# Altium schematic symbol library Analog_ADC.SchLib: 158 symbols (part 2 of 3)
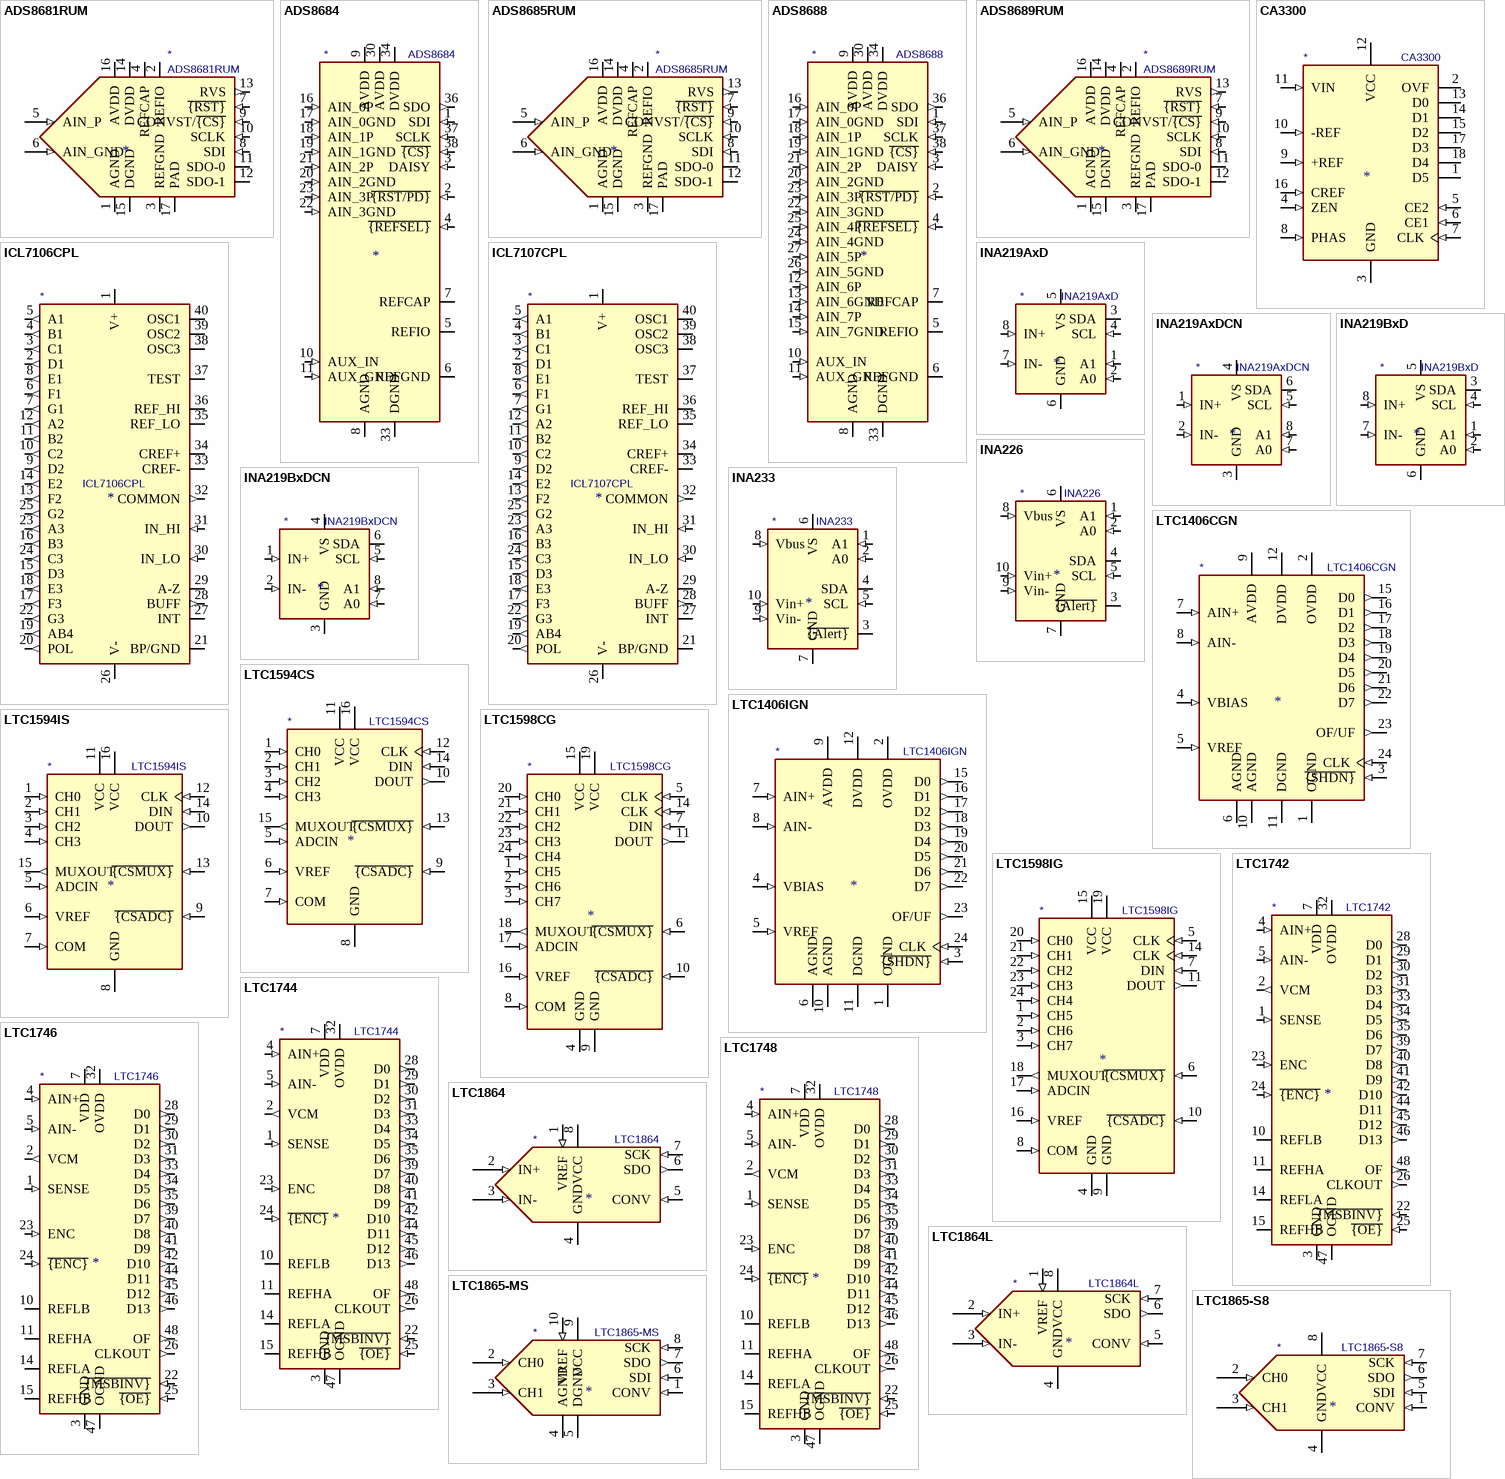
[diagram p6: symbols ADS8681RUM to LTC1865-S8]

## LTC1742
designator *  value LTC1742
ki_keywords: ADC analog digital converter pipeline; ki_description: 14-Bit, 65Msps, Low Noise, ADC, TSSOP-48; ki_fp_filters: TSSOP*6.1x12.5mm*P0.5mm*; Footprint: Package_SO:TSSOP-48_6.1x12.5mm_P0.5mm; Supplier: https://www.analog.com/media/en/technical-documentation/data-sheets/1742f.pdf
footprint TSSOP-48_6.1x12.5mm_P0.5mm
pins: 1 SENSE (in), 2 VCM (out), 3 GND (power), 4 AIN+ (in), 5 AIN- (in), 6 GND hidden, 7 VDD (power), 8 VDD hidden, 9 GND hidden, 10 REFLB, 11 REFHA, 12 GND hidden, 13 GND hidden, 14 REFLA, 15 REFHB, 16 GND hidden, 17 VDD hidden, 18 VDD hidden, 19 GND hidden, 20 VDD hidden, 21 GND hidden, 22 ~{{MSBINV}} (in), 23 ENC (in), 24 ~{{ENC}} (in), 25 ~{{OE}} (in), 26 CLKOUT (out), 27 OGND hidden, 28 D0 (out), 29 D1 (out), 30 D2 (out), 31 D3 (out), 32 OVDD (power), 33 D4 (out), 34 D5 (out), 35 D6 (out), 36 GND hidden, 37 GND hidden, 38 OGND hidden, 39 D7 (out), 40 D8 (out), 41 D9 (out), 42 D10 (out), 43 OVDD hidden, 44 D11 (out), 45 D12 (out), 46 D13 (out), 47 OGND (power), 48 OF (out)

## LTC1744
designator *  value LTC1744
ki_keywords: ADC analog digital converter pipeline; ki_description: 14-Bit, 50Msps, ADC, TSSOP-48; ki_fp_filters: TSSOP*6.1x12.5mm*P0.5mm*; Footprint: Package_SO:TSSOP-48_6.1x12.5mm_P0.5mm; Supplier: https://www.analog.com/media/en/technical-documentation/data-sheets/1744f.pdf
footprint TSSOP-48_6.1x12.5mm_P0.5mm
pins: 1 SENSE (in), 2 VCM (out), 3 GND (power), 4 AIN+ (in), 5 AIN- (in), 6 GND hidden, 7 VDD (power), 8 VDD hidden, 9 GND hidden, 10 REFLB, 11 REFHA, 12 GND hidden, 13 GND hidden, 14 REFLA, 15 REFHB, 16 GND hidden, 17 VDD hidden, 18 VDD hidden, 19 GND hidden, 20 VDD hidden, 21 GND hidden, 22 ~{{MSBINV}} (in), 23 ENC (in), 24 ~{{ENC}} (in), 25 ~{{OE}} (in), 26 CLKOUT (out), 27 OGND hidden, 28 D0 (out), 29 D1 (out), 30 D2 (out), 31 D3 (out), 32 OVDD (power), 33 D4 (out), 34 D5 (out), 35 D6 (out), 36 GND hidden, 37 GND hidden, 38 OGND hidden, 39 D7 (out), 40 D8 (out), 41 D9 (out), 42 D10 (out), 43 OVDD hidden, 44 D11 (out), 45 D12 (out), 46 D13 (out), 47 OGND (power), 48 OF (out)

## LTC1746
designator *  value LTC1746
ki_keywords: ADC analog digital converter pipeline; ki_description: Low Power, 14-Bit, 25Msps, ADC, TSSOP-48; ki_fp_filters: TSSOP*6.1x12.5mm*P0.5mm*; Footprint: Package_SO:TSSOP-48_6.1x12.5mm_P0.5mm; Supplier: https://www.analog.com/media/en/technical-documentation/data-sheets/1746f.pdf
footprint TSSOP-48_6.1x12.5mm_P0.5mm
pins: 1 SENSE (in), 2 VCM (out), 3 GND (power), 4 AIN+ (in), 5 AIN- (in), 6 GND hidden, 7 VDD (power), 8 VDD hidden, 9 GND hidden, 10 REFLB, 11 REFHA, 12 GND hidden, 13 GND hidden, 14 REFLA, 15 REFHB, 16 GND hidden, 17 VDD hidden, 18 VDD hidden, 19 GND hidden, 20 VDD hidden, 21 GND hidden, 22 ~{{MSBINV}} (in), 23 ENC (in), 24 ~{{ENC}} (in), 25 ~{{OE}} (in), 26 CLKOUT (out), 27 OGND hidden, 28 D0 (out), 29 D1 (out), 30 D2 (out), 31 D3 (out), 32 OVDD (power), 33 D4 (out), 34 D5 (out), 35 D6 (out), 36 GND hidden, 37 GND hidden, 38 OGND hidden, 39 D7 (out), 40 D8 (out), 41 D9 (out), 42 D10 (out), 43 OVDD hidden, 44 D11 (out), 45 D12 (out), 46 D13 (out), 47 OGND (power), 48 OF (out)

## LTC1748
designator *  value LTC1748
ki_keywords: ADC analog digital converter pipeline; ki_description: 14-Bit, 80Msps, Low Noise, ADC, TSSOP-48; ki_fp_filters: TSSOP*6.1x12.5mm*P0.5mm*; Footprint: Package_SO:TSSOP-48_6.1x12.5mm_P0.5mm; Supplier: https://www.analog.com/media/en/technical-documentation/data-sheets/1748fa.pdf
footprint TSSOP-48_6.1x12.5mm_P0.5mm
pins: 1 SENSE (in), 2 VCM (out), 3 GND (power), 4 AIN+ (in), 5 AIN- (in), 6 GND hidden, 7 VDD (power), 8 VDD hidden, 9 GND hidden, 10 REFLB, 11 REFHA, 12 GND hidden, 13 GND hidden, 14 REFLA, 15 REFHB, 16 GND hidden, 17 VDD hidden, 18 VDD hidden, 19 GND hidden, 20 VDD hidden, 21 GND hidden, 22 ~{{MSBINV}} (in), 23 ENC (in), 24 ~{{ENC}} (in), 25 ~{{OE}} (in), 26 CLKOUT (out), 27 OGND hidden, 28 D0 (out), 29 D1 (out), 30 D2 (out), 31 D3 (out), 32 OVDD (power), 33 D4 (out), 34 D5 (out), 35 D6 (out), 36 GND hidden, 37 GND hidden, 38 OGND hidden, 39 D7 (out), 40 D8 (out), 41 D9 (out), 42 D10 (out), 43 OVDD hidden, 44 D11 (out), 45 D12 (out), 46 D13 (out), 47 OGND (power), 48 OF (out)

## LTC1864
designator *  value LTC1864
ki_keywords: sigma-delta adc spi 1ch; ki_description: Single channel 16-bit Analog to Digital Converter, 5V supply, differential input, 150ksps, SPI interface; ki_fp_filters: MSOP*3x3mm*P0.65mm* SOIC*3.9x4.9mm*P1.27mm*; Supplier: https://www.analog.com/media/en/technical-documentation/data-sheets/18645fb.pdf
pins: 1 VREF (in), 2 IN+ (in), 3 IN- (in), 4 GND (power), 5 CONV (in), 6 SDO (out), 7 SCK (in), 8 VCC (power)

## LTC1864L
designator *  value LTC1864L
ki_keywords: sigma-delta adc spi 1ch; ki_description: Single channel 16-bit Analog to Digital Converter, 3V supply, differential input, 150ksps, SPI interface; ki_fp_filters: MSOP*3x3mm*P0.65mm* SOIC*3.9x4.9mm*P1.27mm*; Supplier: https://www.analog.com/media/en/technical-documentation/data-sheets/18645lfs.pdf
pins: 1 VREF (in), 2 IN+ (in), 3 IN- (in), 4 GND (power), 5 CONV (in), 6 SDO (out), 7 SCK (in), 8 VCC (power)

## LTC1865-MS
designator *  value LTC1865-MS
ki_keywords: sigma-delta adc 2ch; ki_description: Dual channel 16-bit Analog to Digital Converter, 5V supply, 150ksps, SPI interface; ki_fp_filters: MSOP-10*; Supplier: https://www.analog.com/media/en/technical-documentation/data-sheets/18645fb.pdf
pins: 1 CONV (in), 2 CH0 (in), 3 CH1 (in), 4 AGND (power), 5 DGND (power), 6 SDI (in), 7 SDO (out), 8 SCK (in), 9 VCC (power), 10 VREF (in)

## LTC1865-S8
designator *  value LTC1865-S8
ki_keywords: sigma-delta adc 2ch; ki_description: Dual channel 16-bit Analog to Digital Converter, 5V supply, 150ksps, SPI interface; ki_fp_filters: SOIC*3.9x4.9mm*P1.27mm*; Supplier: https://www.analog.com/media/en/technical-documentation/data-sheets/18645fb.pdf
pins: 1 CONV (in), 2 CH0 (in), 3 CH1 (in), 4 GND (power), 5 SDI (in), 6 SDO (out), 7 SCK (in), 8 VCC (power)

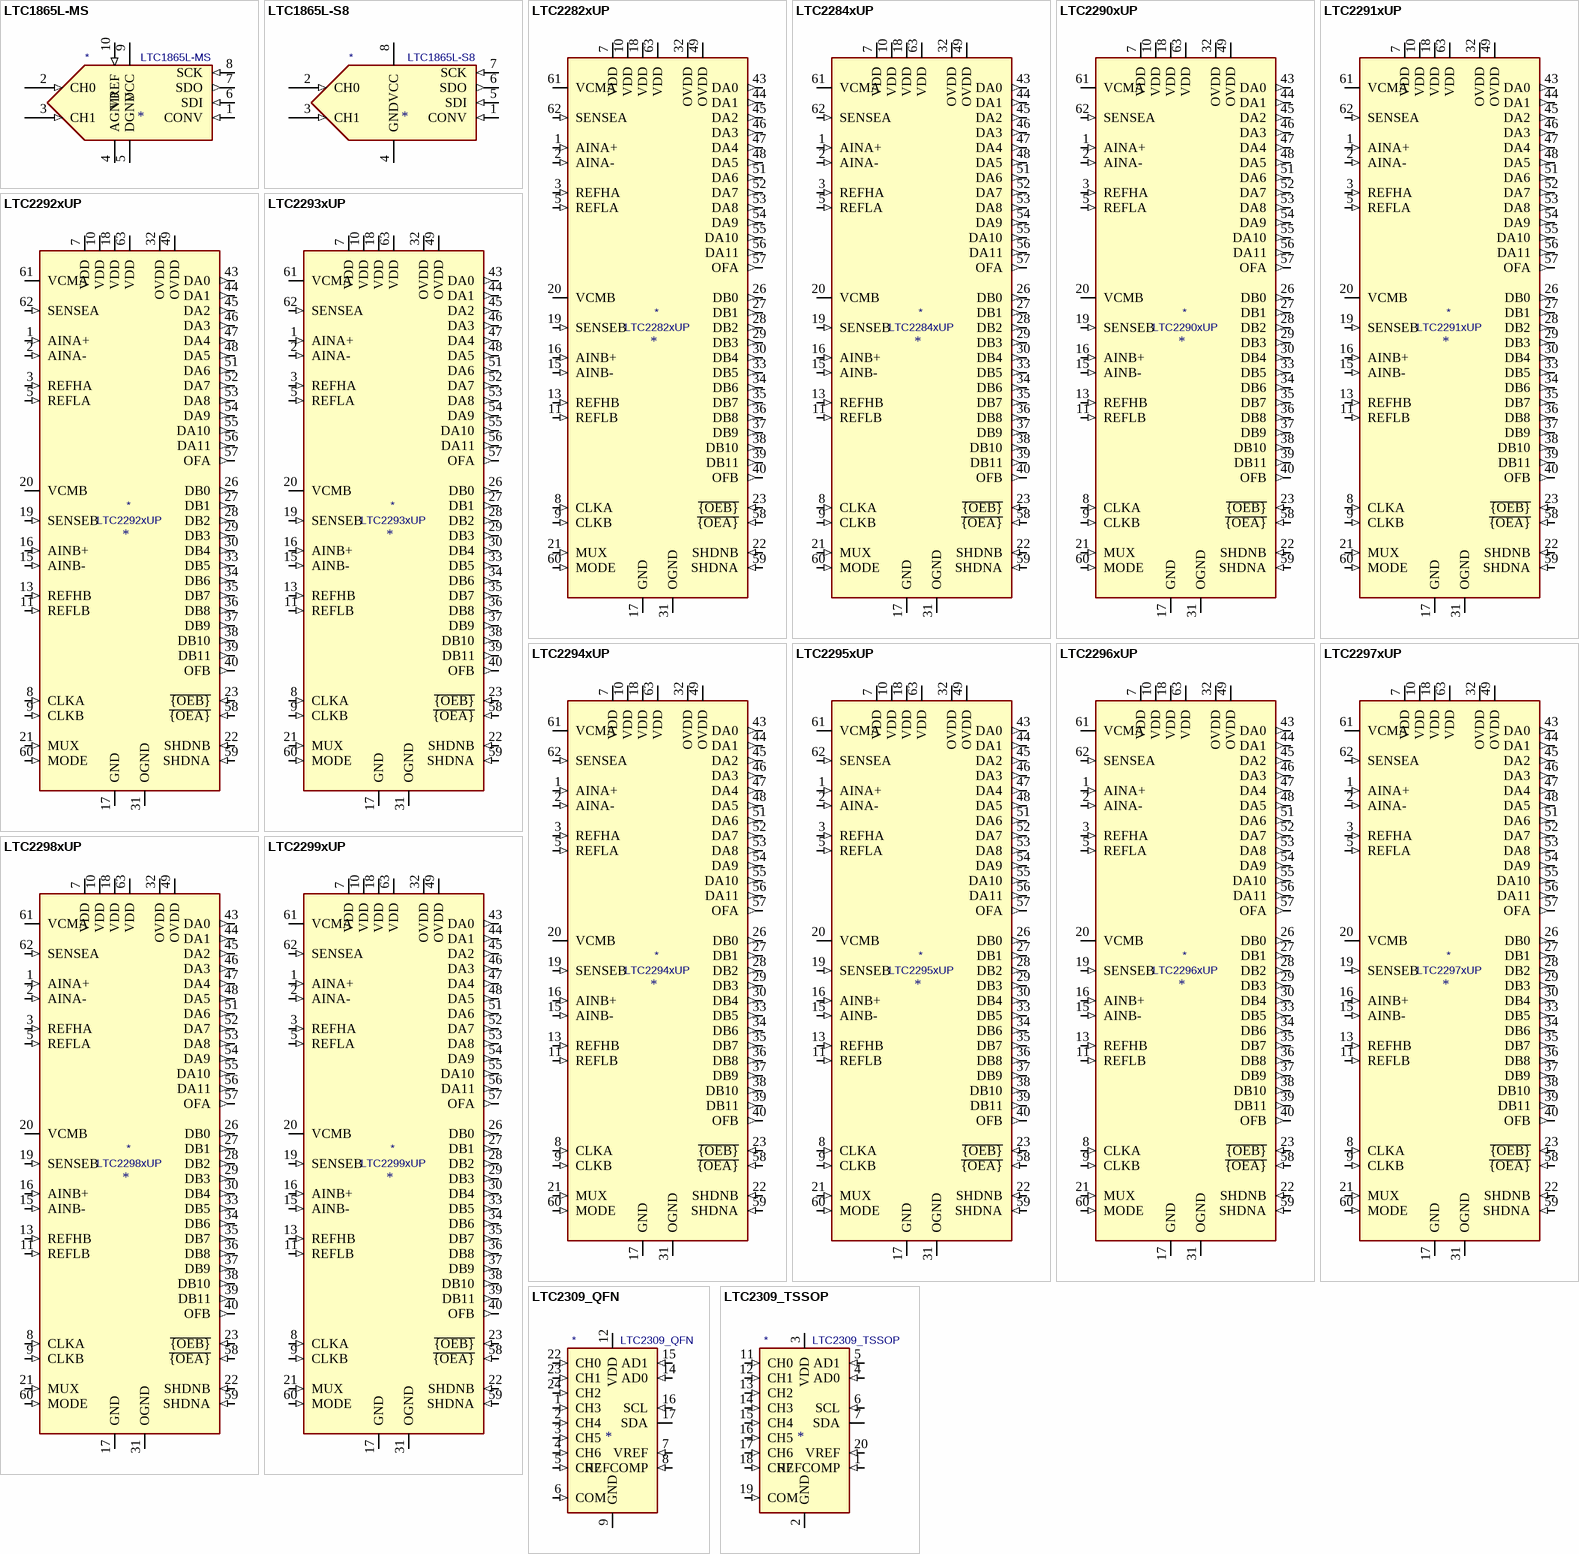
[diagram p3: symbols LTC1865L-MS to LTC2309_TSSOP]

## LTC1865L-MS
designator *  value LTC1865L-MS
ki_keywords: sigma-delta adc 2ch; ki_description: Dual channel 16-bit Analog to Digital Converter, 3V supply, 150ksps, SPI interface; ki_fp_filters: MSOP-10*; Supplier: https://www.analog.com/media/en/technical-documentation/data-sheets/18645lfs.pdf
pins: 1 CONV (in), 2 CH0 (in), 3 CH1 (in), 4 AGND (power), 5 DGND (power), 6 SDI (in), 7 SDO (out), 8 SCK (in), 9 VCC (power), 10 VREF (in)

## LTC1865L-S8
designator *  value LTC1865L-S8
ki_keywords: sigma-delta adc 2ch; ki_description: Dual channel 16-bit Analog to Digital Converter, 3V supply, 150ksps, SPI interface; ki_fp_filters: SOIC*3.9x4.9mm*P1.27mm*; Supplier: https://www.analog.com/media/en/technical-documentation/data-sheets/18645lfs.pdf
pins: 1 CONV (in), 2 CH0 (in), 3 CH1 (in), 4 GND (power), 5 SDI (in), 6 SDO (out), 7 SCK (in), 8 VCC (power)

## LTC2282xUP
designator *  value LTC2282xUP
ki_keywords: ADC; ki_description: Dual-Channel, 12-Bit Low Power ADC, 105Msps, QFN-64; ki_fp_filters: QFN*1EP*9x9mm*P0.5mm*; Footprint: Package_DFN_QFN:QFN-64-1EP_9x9mm_P0.5mm_EP7.15x7.15mm; Supplier: https://www.analog.com/media/en/technical-documentation/data-sheets/2282fb.pdf
footprint QFN-64-1EP_9x9mm_P0.5mm_EP7.15x7.15mm
pins: 1 AINA+ (in), 2 AINA- (in), 3 REFHA (in), 4 REFHA (in) hidden, 5 REFLA (in), 6 REFLA (in) hidden, 7 VDD (power), 8 CLKA (in), 9 CLKB (in), 10 VDD (power), 11 REFLB (in), 12 REFLB (in) hidden, 13 REFHB (in), 14 REFHB (in) hidden, 15 AINB- (in), 16 AINB+ (in), 17 GND (power), 18 VDD (power), 19 SENSEB (in), 20 VCMB, 21 MUX (in), 22 SHDNB (in), 23 ~{{OEB}} (in), 24 NC (in) hidden, 25 NC (in) hidden, 26 DB0 (out), 27 DB1 (out), 28 DB2 (out), 29 DB3 (out), 30 DB4 (out), 31 OGND (power), 32 OVDD (power), 33 DB5 (out), 34 DB6 (out), 35 DB7 (out), 36 DB8 (out), 37 DB9 (out), 38 DB10 (out), 39 DB11 (out), 40 OFB (out), 41 NC (in) hidden, 42 NC (in) hidden, 43 DA0 (out), 44 DA1 (out), 45 DA2 (out), 46 DA3 (out), 47 DA4 (out), 48 DA5 (out), 49 OVDD (power), 50 OGND hidden, 51 DA6 (out), 52 DA7 (out), 53 DA8 (out), 54 DA9 (out), 55 DA10 (out), 56 DA11 (out), 57 OFA (out), 58 ~{{OEA}} (in), 59 SHDNA (in), 60 MODE (in), 61 VCMA, 62 SENSEA (in), 63 VDD (power), 64 GND hidden, 65 GND hidden

## LTC2284xUP
designator *  value LTC2284xUP
ki_keywords: ADC; ki_description: Dual-Channel, 14-Bit Low Power ADC, 105Msps, QFN-64; ki_fp_filters: QFN*1EP*9x9mm*P0.5mm*; Footprint: Package_DFN_QFN:QFN-64-1EP_9x9mm_P0.5mm_EP7.15x7.15mm; Supplier: https://www.analog.com/media/en/technical-documentation/data-sheets/2284fa.pdf
footprint QFN-64-1EP_9x9mm_P0.5mm_EP7.15x7.15mm
pins: 1 AINA+ (in), 2 AINA- (in), 3 REFHA (in), 4 REFHA (in) hidden, 5 REFLA (in), 6 REFLA (in) hidden, 7 VDD (power), 8 CLKA (in), 9 CLKB (in), 10 VDD (power), 11 REFLB (in), 12 REFLB (in) hidden, 13 REFHB (in), 14 REFHB (in) hidden, 15 AINB- (in), 16 AINB+ (in), 17 GND (power), 18 VDD (power), 19 SENSEB (in), 20 VCMB, 21 MUX (in), 22 SHDNB (in), 23 ~{{OEB}} (in), 24 NC (in) hidden, 25 NC (in) hidden, 26 DB0 (out), 27 DB1 (out), 28 DB2 (out), 29 DB3 (out), 30 DB4 (out), 31 OGND (power), 32 OVDD (power), 33 DB5 (out), 34 DB6 (out), 35 DB7 (out), 36 DB8 (out), 37 DB9 (out), 38 DB10 (out), 39 DB11 (out), 40 OFB (out), 41 NC (in) hidden, 42 NC (in) hidden, 43 DA0 (out), 44 DA1 (out), 45 DA2 (out), 46 DA3 (out), 47 DA4 (out), 48 DA5 (out), 49 OVDD (power), 50 OGND hidden, 51 DA6 (out), 52 DA7 (out), 53 DA8 (out), 54 DA9 (out), 55 DA10 (out), 56 DA11 (out), 57 OFA (out), 58 ~{{OEA}} (in), 59 SHDNA (in), 60 MODE (in), 61 VCMA, 62 SENSEA (in), 63 VDD (power), 64 GND hidden, 65 GND hidden

## LTC2290xUP
designator *  value LTC2290xUP
ki_keywords: ADC; ki_description: Dual-Channel, 12-Bit Low Power ADC, 10Msps, QFN-64; ki_fp_filters: QFN*1EP*9x9mm*P0.5mm*; Footprint: Package_DFN_QFN:QFN-64-1EP_9x9mm_P0.5mm_EP7.15x7.15mm; Supplier: https://www.analog.com/media/en/technical-documentation/data-sheets/2290fa.pdf
footprint QFN-64-1EP_9x9mm_P0.5mm_EP7.15x7.15mm
pins: 1 AINA+ (in), 2 AINA- (in), 3 REFHA (in), 4 REFHA (in) hidden, 5 REFLA (in), 6 REFLA (in) hidden, 7 VDD (power), 8 CLKA (in), 9 CLKB (in), 10 VDD (power), 11 REFLB (in), 12 REFLB (in) hidden, 13 REFHB (in), 14 REFHB (in) hidden, 15 AINB- (in), 16 AINB+ (in), 17 GND (power), 18 VDD (power), 19 SENSEB (in), 20 VCMB, 21 MUX (in), 22 SHDNB (in), 23 ~{{OEB}} (in), 24 NC (in) hidden, 25 NC (in) hidden, 26 DB0 (out), 27 DB1 (out), 28 DB2 (out), 29 DB3 (out), 30 DB4 (out), 31 OGND (power), 32 OVDD (power), 33 DB5 (out), 34 DB6 (out), 35 DB7 (out), 36 DB8 (out), 37 DB9 (out), 38 DB10 (out), 39 DB11 (out), 40 OFB (out), 41 NC (in) hidden, 42 NC (in) hidden, 43 DA0 (out), 44 DA1 (out), 45 DA2 (out), 46 DA3 (out), 47 DA4 (out), 48 DA5 (out), 49 OVDD (power), 50 OGND hidden, 51 DA6 (out), 52 DA7 (out), 53 DA8 (out), 54 DA9 (out), 55 DA10 (out), 56 DA11 (out), 57 OFA (out), 58 ~{{OEA}} (in), 59 SHDNA (in), 60 MODE (in), 61 VCMA, 62 SENSEA (in), 63 VDD (power), 64 GND hidden, 65 GND hidden

## LTC2291xUP
designator *  value LTC2291xUP
ki_keywords: ADC; ki_description: Dual-Channel, 12-Bit Low Power ADC, 25Msps, QFN-64; ki_fp_filters: QFN*1EP*9x9mm*P0.5mm*; Footprint: Package_DFN_QFN:QFN-64-1EP_9x9mm_P0.5mm_EP7.15x7.15mm; Supplier: https://www.analog.com/media/en/technical-documentation/data-sheets/229321fa.pdf
footprint QFN-64-1EP_9x9mm_P0.5mm_EP7.15x7.15mm
pins: 1 AINA+ (in), 2 AINA- (in), 3 REFHA (in), 4 REFHA (in) hidden, 5 REFLA (in), 6 REFLA (in) hidden, 7 VDD (power), 8 CLKA (in), 9 CLKB (in), 10 VDD (power), 11 REFLB (in), 12 REFLB (in) hidden, 13 REFHB (in), 14 REFHB (in) hidden, 15 AINB- (in), 16 AINB+ (in), 17 GND (power), 18 VDD (power), 19 SENSEB (in), 20 VCMB, 21 MUX (in), 22 SHDNB (in), 23 ~{{OEB}} (in), 24 NC (in) hidden, 25 NC (in) hidden, 26 DB0 (out), 27 DB1 (out), 28 DB2 (out), 29 DB3 (out), 30 DB4 (out), 31 OGND (power), 32 OVDD (power), 33 DB5 (out), 34 DB6 (out), 35 DB7 (out), 36 DB8 (out), 37 DB9 (out), 38 DB10 (out), 39 DB11 (out), 40 OFB (out), 41 NC (in) hidden, 42 NC (in) hidden, 43 DA0 (out), 44 DA1 (out), 45 DA2 (out), 46 DA3 (out), 47 DA4 (out), 48 DA5 (out), 49 OVDD (power), 50 OGND hidden, 51 DA6 (out), 52 DA7 (out), 53 DA8 (out), 54 DA9 (out), 55 DA10 (out), 56 DA11 (out), 57 OFA (out), 58 ~{{OEA}} (in), 59 SHDNA (in), 60 MODE (in), 61 VCMA, 62 SENSEA (in), 63 VDD (power), 64 GND hidden, 65 GND hidden

## LTC2292xUP
designator *  value LTC2292xUP
ki_keywords: ADC; ki_description: Dual-Channel, 12-Bit Low Power ADC, 40Msps, QFN-64; ki_fp_filters: QFN*1EP*9x9mm*P0.5mm*; Footprint: Package_DFN_QFN:QFN-64-1EP_9x9mm_P0.5mm_EP7.15x7.15mm; Supplier: https://www.analog.com/media/en/technical-documentation/data-sheets/229321fa.pdf
footprint QFN-64-1EP_9x9mm_P0.5mm_EP7.15x7.15mm
pins: 1 AINA+ (in), 2 AINA- (in), 3 REFHA (in), 4 REFHA (in) hidden, 5 REFLA (in), 6 REFLA (in) hidden, 7 VDD (power), 8 CLKA (in), 9 CLKB (in), 10 VDD (power), 11 REFLB (in), 12 REFLB (in) hidden, 13 REFHB (in), 14 REFHB (in) hidden, 15 AINB- (in), 16 AINB+ (in), 17 GND (power), 18 VDD (power), 19 SENSEB (in), 20 VCMB, 21 MUX (in), 22 SHDNB (in), 23 ~{{OEB}} (in), 24 NC (in) hidden, 25 NC (in) hidden, 26 DB0 (out), 27 DB1 (out), 28 DB2 (out), 29 DB3 (out), 30 DB4 (out), 31 OGND (power), 32 OVDD (power), 33 DB5 (out), 34 DB6 (out), 35 DB7 (out), 36 DB8 (out), 37 DB9 (out), 38 DB10 (out), 39 DB11 (out), 40 OFB (out), 41 NC (in) hidden, 42 NC (in) hidden, 43 DA0 (out), 44 DA1 (out), 45 DA2 (out), 46 DA3 (out), 47 DA4 (out), 48 DA5 (out), 49 OVDD (power), 50 OGND hidden, 51 DA6 (out), 52 DA7 (out), 53 DA8 (out), 54 DA9 (out), 55 DA10 (out), 56 DA11 (out), 57 OFA (out), 58 ~{{OEA}} (in), 59 SHDNA (in), 60 MODE (in), 61 VCMA, 62 SENSEA (in), 63 VDD (power), 64 GND hidden, 65 GND hidden

## LTC2293xUP
designator *  value LTC2293xUP
ki_keywords: ADC; ki_description: Dual-Channel, 12-Bit Low Power ADC, 65Msps, QFN-64; ki_fp_filters: QFN*1EP*9x9mm*P0.5mm*; Footprint: Package_DFN_QFN:QFN-64-1EP_9x9mm_P0.5mm_EP7.15x7.15mm; Supplier: https://www.analog.com/media/en/technical-documentation/data-sheets/229321fa.pdf
footprint QFN-64-1EP_9x9mm_P0.5mm_EP7.15x7.15mm
pins: 1 AINA+ (in), 2 AINA- (in), 3 REFHA (in), 4 REFHA (in) hidden, 5 REFLA (in), 6 REFLA (in) hidden, 7 VDD (power), 8 CLKA (in), 9 CLKB (in), 10 VDD (power), 11 REFLB (in), 12 REFLB (in) hidden, 13 REFHB (in), 14 REFHB (in) hidden, 15 AINB- (in), 16 AINB+ (in), 17 GND (power), 18 VDD (power), 19 SENSEB (in), 20 VCMB, 21 MUX (in), 22 SHDNB (in), 23 ~{{OEB}} (in), 24 NC (in) hidden, 25 NC (in) hidden, 26 DB0 (out), 27 DB1 (out), 28 DB2 (out), 29 DB3 (out), 30 DB4 (out), 31 OGND (power), 32 OVDD (power), 33 DB5 (out), 34 DB6 (out), 35 DB7 (out), 36 DB8 (out), 37 DB9 (out), 38 DB10 (out), 39 DB11 (out), 40 OFB (out), 41 NC (in) hidden, 42 NC (in) hidden, 43 DA0 (out), 44 DA1 (out), 45 DA2 (out), 46 DA3 (out), 47 DA4 (out), 48 DA5 (out), 49 OVDD (power), 50 OGND hidden, 51 DA6 (out), 52 DA7 (out), 53 DA8 (out), 54 DA9 (out), 55 DA10 (out), 56 DA11 (out), 57 OFA (out), 58 ~{{OEA}} (in), 59 SHDNA (in), 60 MODE (in), 61 VCMA, 62 SENSEA (in), 63 VDD (power), 64 GND hidden, 65 GND hidden

## LTC2294xUP
designator *  value LTC2294xUP
ki_keywords: ADC; ki_description: Dual-Channel, 12-Bit Low Power ADC, 80Msps, QFN-64; ki_fp_filters: QFN*1EP*9x9mm*P0.5mm*; Footprint: Package_DFN_QFN:QFN-64-1EP_9x9mm_P0.5mm_EP7.15x7.15mm; Supplier: https://www.analog.com/media/en/technical-documentation/data-sheets/2294fa.pdf
footprint QFN-64-1EP_9x9mm_P0.5mm_EP7.15x7.15mm
pins: 1 AINA+ (in), 2 AINA- (in), 3 REFHA (in), 4 REFHA (in) hidden, 5 REFLA (in), 6 REFLA (in) hidden, 7 VDD (power), 8 CLKA (in), 9 CLKB (in), 10 VDD (power), 11 REFLB (in), 12 REFLB (in) hidden, 13 REFHB (in), 14 REFHB (in) hidden, 15 AINB- (in), 16 AINB+ (in), 17 GND (power), 18 VDD (power), 19 SENSEB (in), 20 VCMB, 21 MUX (in), 22 SHDNB (in), 23 ~{{OEB}} (in), 24 NC (in) hidden, 25 NC (in) hidden, 26 DB0 (out), 27 DB1 (out), 28 DB2 (out), 29 DB3 (out), 30 DB4 (out), 31 OGND (power), 32 OVDD (power), 33 DB5 (out), 34 DB6 (out), 35 DB7 (out), 36 DB8 (out), 37 DB9 (out), 38 DB10 (out), 39 DB11 (out), 40 OFB (out), 41 NC (in) hidden, 42 NC (in) hidden, 43 DA0 (out), 44 DA1 (out), 45 DA2 (out), 46 DA3 (out), 47 DA4 (out), 48 DA5 (out), 49 OVDD (power), 50 OGND hidden, 51 DA6 (out), 52 DA7 (out), 53 DA8 (out), 54 DA9 (out), 55 DA10 (out), 56 DA11 (out), 57 OFA (out), 58 ~{{OEA}} (in), 59 SHDNA (in), 60 MODE (in), 61 VCMA, 62 SENSEA (in), 63 VDD (power), 64 GND hidden, 65 GND hidden

## LTC2295xUP
designator *  value LTC2295xUP
ki_keywords: ADC; ki_description: Dual-Channel, 14-Bit Low Power ADC, 10Msps, QFN-64; ki_fp_filters: QFN*1EP*9x9mm*P0.5mm*; Footprint: Package_DFN_QFN:QFN-64-1EP_9x9mm_P0.5mm_EP7.15x7.15mm; Supplier: https://www.analog.com/media/en/technical-documentation/data-sheets/2295fa.pdf
footprint QFN-64-1EP_9x9mm_P0.5mm_EP7.15x7.15mm
pins: 1 AINA+ (in), 2 AINA- (in), 3 REFHA (in), 4 REFHA (in) hidden, 5 REFLA (in), 6 REFLA (in) hidden, 7 VDD (power), 8 CLKA (in), 9 CLKB (in), 10 VDD (power), 11 REFLB (in), 12 REFLB (in) hidden, 13 REFHB (in), 14 REFHB (in) hidden, 15 AINB- (in), 16 AINB+ (in), 17 GND (power), 18 VDD (power), 19 SENSEB (in), 20 VCMB, 21 MUX (in), 22 SHDNB (in), 23 ~{{OEB}} (in), 24 NC (in) hidden, 25 NC (in) hidden, 26 DB0 (out), 27 DB1 (out), 28 DB2 (out), 29 DB3 (out), 30 DB4 (out), 31 OGND (power), 32 OVDD (power), 33 DB5 (out), 34 DB6 (out), 35 DB7 (out), 36 DB8 (out), 37 DB9 (out), 38 DB10 (out), 39 DB11 (out), 40 OFB (out), 41 NC (in) hidden, 42 NC (in) hidden, 43 DA0 (out), 44 DA1 (out), 45 DA2 (out), 46 DA3 (out), 47 DA4 (out), 48 DA5 (out), 49 OVDD (power), 50 OGND hidden, 51 DA6 (out), 52 DA7 (out), 53 DA8 (out), 54 DA9 (out), 55 DA10 (out), 56 DA11 (out), 57 OFA (out), 58 ~{{OEA}} (in), 59 SHDNA (in), 60 MODE (in), 61 VCMA, 62 SENSEA (in), 63 VDD (power), 64 GND hidden, 65 GND hidden

## LTC2296xUP
designator *  value LTC2296xUP
ki_keywords: ADC; ki_description: Dual-Channel, 14-Bit Low Power ADC, 25Msps, QFN-64; ki_fp_filters: QFN*1EP*9x9mm*P0.5mm*; Footprint: Package_DFN_QFN:QFN-64-1EP_9x9mm_P0.5mm_EP7.15x7.15mm; Supplier: https://www.analog.com/media/en/technical-documentation/data-sheets/229876fa.pdf
footprint QFN-64-1EP_9x9mm_P0.5mm_EP7.15x7.15mm
pins: 1 AINA+ (in), 2 AINA- (in), 3 REFHA (in), 4 REFHA (in) hidden, 5 REFLA (in), 6 REFLA (in) hidden, 7 VDD (power), 8 CLKA (in), 9 CLKB (in), 10 VDD (power), 11 REFLB (in), 12 REFLB (in) hidden, 13 REFHB (in), 14 REFHB (in) hidden, 15 AINB- (in), 16 AINB+ (in), 17 GND (power), 18 VDD (power), 19 SENSEB (in), 20 VCMB, 21 MUX (in), 22 SHDNB (in), 23 ~{{OEB}} (in), 24 NC (in) hidden, 25 NC (in) hidden, 26 DB0 (out), 27 DB1 (out), 28 DB2 (out), 29 DB3 (out), 30 DB4 (out), 31 OGND (power), 32 OVDD (power), 33 DB5 (out), 34 DB6 (out), 35 DB7 (out), 36 DB8 (out), 37 DB9 (out), 38 DB10 (out), 39 DB11 (out), 40 OFB (out), 41 NC (in) hidden, 42 NC (in) hidden, 43 DA0 (out), 44 DA1 (out), 45 DA2 (out), 46 DA3 (out), 47 DA4 (out), 48 DA5 (out), 49 OVDD (power), 50 OGND hidden, 51 DA6 (out), 52 DA7 (out), 53 DA8 (out), 54 DA9 (out), 55 DA10 (out), 56 DA11 (out), 57 OFA (out), 58 ~{{OEA}} (in), 59 SHDNA (in), 60 MODE (in), 61 VCMA, 62 SENSEA (in), 63 VDD (power), 64 GND hidden, 65 GND hidden

## LTC2297xUP
designator *  value LTC2297xUP
ki_keywords: ADC; ki_description: Dual-Channel, 14-Bit Low Power ADC, 40Msps, QFN-64; ki_fp_filters: QFN*1EP*9x9mm*P0.5mm*; Footprint: Package_DFN_QFN:QFN-64-1EP_9x9mm_P0.5mm_EP7.15x7.15mm; Supplier: https://www.analog.com/media/en/technical-documentation/data-sheets/229876fa.pdf
footprint QFN-64-1EP_9x9mm_P0.5mm_EP7.15x7.15mm
pins: 1 AINA+ (in), 2 AINA- (in), 3 REFHA (in), 4 REFHA (in) hidden, 5 REFLA (in), 6 REFLA (in) hidden, 7 VDD (power), 8 CLKA (in), 9 CLKB (in), 10 VDD (power), 11 REFLB (in), 12 REFLB (in) hidden, 13 REFHB (in), 14 REFHB (in) hidden, 15 AINB- (in), 16 AINB+ (in), 17 GND (power), 18 VDD (power), 19 SENSEB (in), 20 VCMB, 21 MUX (in), 22 SHDNB (in), 23 ~{{OEB}} (in), 24 NC (in) hidden, 25 NC (in) hidden, 26 DB0 (out), 27 DB1 (out), 28 DB2 (out), 29 DB3 (out), 30 DB4 (out), 31 OGND (power), 32 OVDD (power), 33 DB5 (out), 34 DB6 (out), 35 DB7 (out), 36 DB8 (out), 37 DB9 (out), 38 DB10 (out), 39 DB11 (out), 40 OFB (out), 41 NC (in) hidden, 42 NC (in) hidden, 43 DA0 (out), 44 DA1 (out), 45 DA2 (out), 46 DA3 (out), 47 DA4 (out), 48 DA5 (out), 49 OVDD (power), 50 OGND hidden, 51 DA6 (out), 52 DA7 (out), 53 DA8 (out), 54 DA9 (out), 55 DA10 (out), 56 DA11 (out), 57 OFA (out), 58 ~{{OEA}} (in), 59 SHDNA (in), 60 MODE (in), 61 VCMA, 62 SENSEA (in), 63 VDD (power), 64 GND hidden, 65 GND hidden

## LTC2298xUP
designator *  value LTC2298xUP
ki_keywords: ADC; ki_description: Dual-Channel, 14-Bit Low Power ADC, 65Msps, QFN-64; ki_fp_filters: QFN*1EP*9x9mm*P0.5mm*; Footprint: Package_DFN_QFN:QFN-64-1EP_9x9mm_P0.5mm_EP7.15x7.15mm; Supplier: https://www.analog.com/media/en/technical-documentation/data-sheets/229876fa.pdf
footprint QFN-64-1EP_9x9mm_P0.5mm_EP7.15x7.15mm
pins: 1 AINA+ (in), 2 AINA- (in), 3 REFHA (in), 4 REFHA (in) hidden, 5 REFLA (in), 6 REFLA (in) hidden, 7 VDD (power), 8 CLKA (in), 9 CLKB (in), 10 VDD (power), 11 REFLB (in), 12 REFLB (in) hidden, 13 REFHB (in), 14 REFHB (in) hidden, 15 AINB- (in), 16 AINB+ (in), 17 GND (power), 18 VDD (power), 19 SENSEB (in), 20 VCMB, 21 MUX (in), 22 SHDNB (in), 23 ~{{OEB}} (in), 24 NC (in) hidden, 25 NC (in) hidden, 26 DB0 (out), 27 DB1 (out), 28 DB2 (out), 29 DB3 (out), 30 DB4 (out), 31 OGND (power), 32 OVDD (power), 33 DB5 (out), 34 DB6 (out), 35 DB7 (out), 36 DB8 (out), 37 DB9 (out), 38 DB10 (out), 39 DB11 (out), 40 OFB (out), 41 NC (in) hidden, 42 NC (in) hidden, 43 DA0 (out), 44 DA1 (out), 45 DA2 (out), 46 DA3 (out), 47 DA4 (out), 48 DA5 (out), 49 OVDD (power), 50 OGND hidden, 51 DA6 (out), 52 DA7 (out), 53 DA8 (out), 54 DA9 (out), 55 DA10 (out), 56 DA11 (out), 57 OFA (out), 58 ~{{OEA}} (in), 59 SHDNA (in), 60 MODE (in), 61 VCMA, 62 SENSEA (in), 63 VDD (power), 64 GND hidden, 65 GND hidden

## LTC2299xUP
designator *  value LTC2299xUP
ki_keywords: ADC; ki_description: Dual-Channel, 14-Bit Low Power ADC, 80Msps, QFN-64; ki_fp_filters: QFN*1EP*9x9mm*P0.5mm*; Footprint: Package_DFN_QFN:QFN-64-1EP_9x9mm_P0.5mm_EP7.15x7.15mm; Supplier: https://www.analog.com/media/en/technical-documentation/data-sheets/2299fa.pdf
footprint QFN-64-1EP_9x9mm_P0.5mm_EP7.15x7.15mm
pins: 1 AINA+ (in), 2 AINA- (in), 3 REFHA (in), 4 REFHA (in) hidden, 5 REFLA (in), 6 REFLA (in) hidden, 7 VDD (power), 8 CLKA (in), 9 CLKB (in), 10 VDD (power), 11 REFLB (in), 12 REFLB (in) hidden, 13 REFHB (in), 14 REFHB (in) hidden, 15 AINB- (in), 16 AINB+ (in), 17 GND (power), 18 VDD (power), 19 SENSEB (in), 20 VCMB, 21 MUX (in), 22 SHDNB (in), 23 ~{{OEB}} (in), 24 NC (in) hidden, 25 NC (in) hidden, 26 DB0 (out), 27 DB1 (out), 28 DB2 (out), 29 DB3 (out), 30 DB4 (out), 31 OGND (power), 32 OVDD (power), 33 DB5 (out), 34 DB6 (out), 35 DB7 (out), 36 DB8 (out), 37 DB9 (out), 38 DB10 (out), 39 DB11 (out), 40 OFB (out), 41 NC (in) hidden, 42 NC (in) hidden, 43 DA0 (out), 44 DA1 (out), 45 DA2 (out), 46 DA3 (out), 47 DA4 (out), 48 DA5 (out), 49 OVDD (power), 50 OGND hidden, 51 DA6 (out), 52 DA7 (out), 53 DA8 (out), 54 DA9 (out), 55 DA10 (out), 56 DA11 (out), 57 OFA (out), 58 ~{{OEA}} (in), 59 SHDNA (in), 60 MODE (in), 61 VCMA, 62 SENSEA (in), 63 VDD (power), 64 GND hidden, 65 GND hidden

## LTC2309_QFN
designator *  value LTC2309_QFN
ki_keywords: LT ADC 12bit I2C SAR QFN; ki_description: 8 Channels, 12-Bit SAR ADC, I2C interface, QFN-24 package; ki_fp_filters: QFN*1EP*4x4mm*0.5mm*; Footprint: Package_DFN_QFN:QFN-24-1EP_4x4mm_P0.5mm_EP2.6x2.6mm; Supplier: https://www.analog.com/media/en/technical-documentation/data-sheets/2309fd.pdf
footprint QFN-24-1EP_4x4mm_P0.5mm_EP2.6x2.6mm
pins: 1 CH3 (in), 2 CH4 (in), 3 CH5 (in), 4 CH6 (in), 5 CH7 (in), 6 COM (in), 7 VREF (in), 8 REFCOMP (in), 9 GND (power), 10 GND hidden, 11 GND hidden, 12 VDD (power), 13 VDD hidden, 14 AD0 (in), 15 AD1 (in), 16 SCL (in), 17 SDA (io), 18 GND hidden, 19 GND hidden, 20 GND hidden, 21 VDD hidden, 22 CH0 (in), 23 CH1 (in), 24 CH2 (in), 25 GND hidden

## LTC2309_TSSOP
designator *  value LTC2309_TSSOP
ki_keywords: LT ADC 12bit I2C SAR TSSOP; ki_description: 8 Channels, 12-Bit SAR ADC, I2C interface, TSSOP-20 package; ki_fp_filters: TSSOP*4.4x6.5mm*P0.65mm*; Footprint: Package_SO:TSSOP-20_4.4x6.5mm_P0.65mm; Supplier: https://www.analog.com/media/en/technical-documentation/data-sheets/2309fd.pdf
footprint TSSOP-20_4.4x6.5mm_P0.65mm
pins: 1 REFCOMP (in), 2 GND (power), 3 VDD (power), 4 AD0 (in), 5 AD1 (in), 6 SCL (in), 7 SDA (io), 8 GND hidden, 9 GND hidden, 10 VDD hidden, 11 CH0 (in), 12 CH1 (in), 13 CH2 (in), 14 CH3 (in), 15 CH4 (in), 16 CH5 (in), 17 CH6 (in), 18 CH7 (in), 19 COM (in), 20 VREF (in)

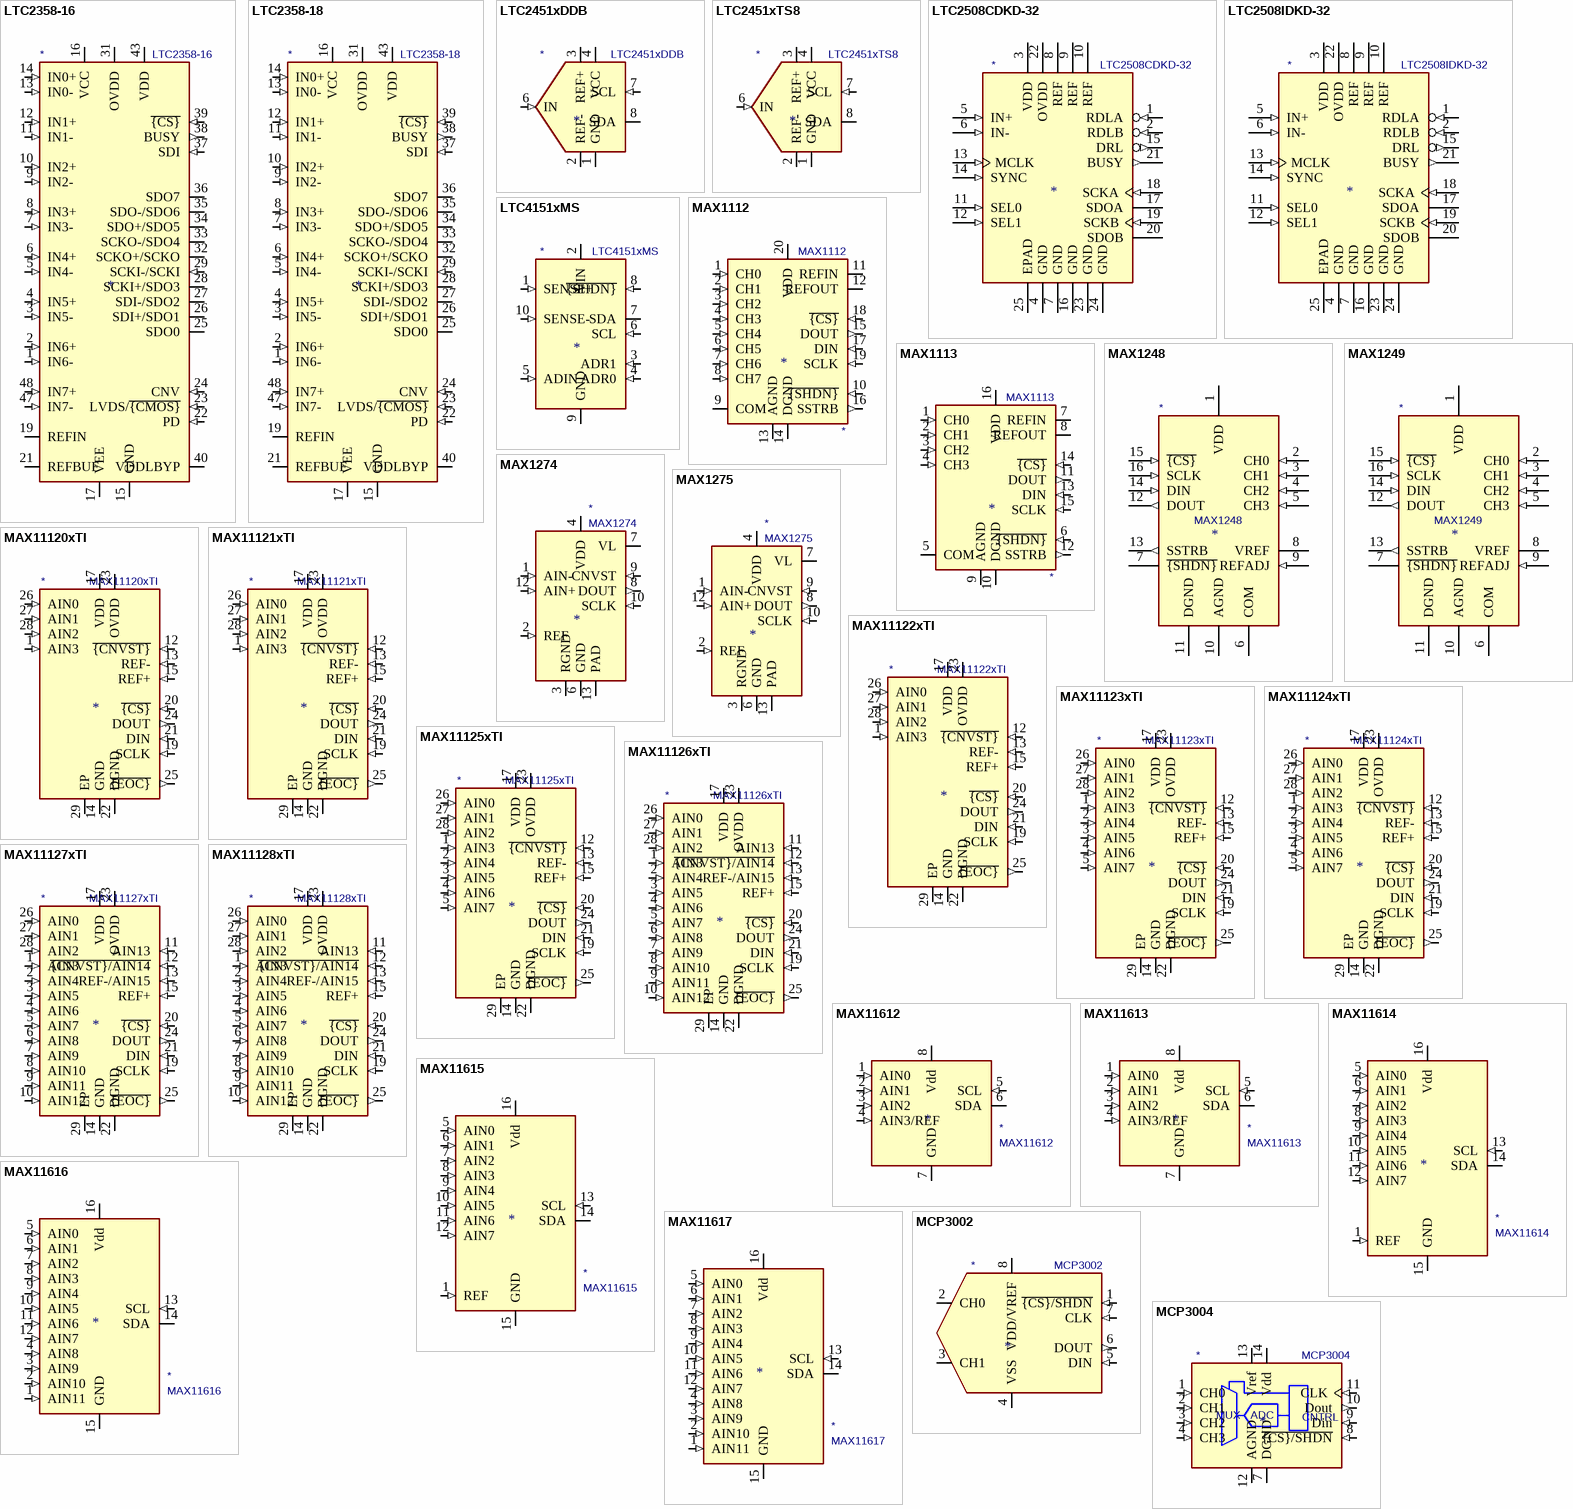
[diagram p4: symbols LTC2358-16 to MCP3004]

## LTC2358-16
designator *  value LTC2358-16
ki_keywords: 16bit Simultaneous Sampling ADC 8 Channels SPI buffered; ki_description: LTC2358 Buffered Octal, 16 bit, 200ksps/Ch Differential +-10.24V Simultaneous Sampling ADC, 30Vpp common mode range, LQFP-48; ki_fp_filters: LQFP?48*7x7mm*P0.5mm*; Footprint: Package_QFP:LQFP-48_7x7mm_P0.5mm; Supplier: https://www.analog.com/media/en/technical-documentation/data-sheets/235816f.pdf
footprint LQFP-48_7x7mm_P0.5mm
pins: 1 IN6- (in), 2 IN6+ (in), 3 IN5- (in), 4 IN5+ (in), 5 IN4- (in), 6 IN4+ (in), 7 IN3- (in), 8 IN3+ (in), 9 IN2- (in), 10 IN2+ (in), 11 IN1- (in), 12 IN1+ (in), 13 IN0- (in), 14 IN0+ (in), 15 GND (power), 16 VCC (power), 17 VEE (power), 18 GND hidden, 19 REFIN, 20 GND hidden, 21 REFBUF, 22 PD (in), 23 LVDS/~{{CMOS}} (in), 24 CNV (in), 25 SDO0 (hiz), 26 SDI+/SDO1 (io), 27 SDI-/SDO2 (io), 28 SCKI+/SDO3 (io), 29 SCKI-/SCKI (in), 30 GND hidden, 31 OVDD (power), 32 SCKO+/SCKO (hiz), 33 SCKO-/SDO4 (hiz), 34 SDO+/SDO5 (hiz), 35 SDO-/SDO6 (hiz), 36 SDO7 (hiz), 37 SDI (in), 38 BUSY (out), 39 ~{{CS}} (in), 40 VDDLBYP, 41 GND hidden, 42 VDD hidden, 43 VDD (power), 44 GND hidden, 45 VEE hidden, 46 GND hidden, 47 IN7- (in), 48 IN7+ (in)

## LTC2358-18
designator *  value LTC2358-18
ki_keywords: 18bit Simultaneous Sampling ADC 8 Channels SPI buffered; ki_description: LTC2358 Buffered Octal, 18 bit, 200ksps/Ch Differential +-10.24V Simultaneous Sampling ADC, 30Vpp common mode range, LQFP-48; ki_fp_filters: LQFP?48*7x7mm*P0.5mm*; Footprint: Package_QFP:LQFP-48_7x7mm_P0.5mm; Supplier: https://www.analog.com/media/en/technical-documentation/data-sheets/235818f.pdf
footprint LQFP-48_7x7mm_P0.5mm
pins: 1 IN6- (in), 2 IN6+ (in), 3 IN5- (in), 4 IN5+ (in), 5 IN4- (in), 6 IN4+ (in), 7 IN3- (in), 8 IN3+ (in), 9 IN2- (in), 10 IN2+ (in), 11 IN1- (in), 12 IN1+ (in), 13 IN0- (in), 14 IN0+ (in), 15 GND (power), 16 VCC (power), 17 VEE (power), 18 GND hidden, 19 REFIN, 20 GND hidden, 21 REFBUF, 22 PD (in), 23 LVDS/~{{CMOS}} (in), 24 CNV (in), 25 SDO0 (hiz), 26 SDI+/SDO1 (io), 27 SDI-/SDO2 (io), 28 SCKI+/SDO3 (io), 29 SCKI-/SCKI (in), 30 GND hidden, 31 OVDD (power), 32 SCKO+/SCKO (hiz), 33 SCKO-/SDO4 (hiz), 34 SDO+/SDO5 (hiz), 35 SDO-/SDO6 (hiz), 36 SDO7 (hiz), 37 SDI (in), 38 BUSY (out), 39 ~{{CS}} (in), 40 VDDLBYP, 41 GND hidden, 42 VDD hidden, 43 VDD (power), 44 GND hidden, 45 VEE hidden, 46 GND hidden, 47 IN7- (in), 48 IN7+ (in)

## LTC2451xDDB
designator *  value LTC2451xDDB
ki_keywords: analog to digital converter adc i2c twi single channel delta sigma 16 bit; ki_description: Analog to Digital Converter, Single Channel, 16-Bit, 30/60 SPS, 2.7V to 5.5V, I2C interface, DFN-8; ki_fp_filters: DFN*1EP*2x3mm*P0.5mm*; Footprint: Package_DFN_QFN:DFN-8-1EP_2x3mm_P0.5mm_EP0.56x2.15mm; Supplier: https://www.analog.com/media/en/technical-documentation/data-sheets/2451fg.pdf
footprint DFN-8-1EP_2x3mm_P0.5mm_EP0.56x2.15mm
pins: 1 GND (power), 2 REF- (power), 3 REF+ (power), 4 VCC (power), 5 GND hidden, 6 IN (in), 7 SCL (in), 8 SDA (io), 9 GND hidden

## LTC2451xTS8
designator *  value LTC2451xTS8
ki_keywords: analog to digital converter adc i2c twi single channel delta sigma 16 bit; ki_description: Analog to Digital Converter, Single Channel, 16-Bit, 30/60 SPS, 2.7V to 5.5V, I2C interface, TSOT-23-6; ki_fp_filters: TSOT?23*; Footprint: Package_TO_SOT_SMD:TSOT-23-8; Supplier: https://www.analog.com/media/en/technical-documentation/data-sheets/2451fg.pdf
footprint TSOT-23-8
pins: 1 GND (power), 2 REF- (power), 3 REF+ (power), 4 VCC (power), 5 GND hidden, 6 IN (in), 7 SCL (in), 8 SDA (io)

## LTC2508CDKD-32
designator *  value LTC2508CDKD-32
ki_keywords: LT ADC 32bit; ki_description: 32-Bit Oversampling ADC with Configurable Digital Filter, 0°C to 70°C, DFN-24 package; ki_fp_filters: DFN*1EP*4x7mm*P0.5mm*; Footprint: Package_DFN_QFN:DFN-24-1EP_4x7mm_P0.5mm_EP2.64x6.44mm; Supplier: https://www.analog.com/media/en/technical-documentation/data-sheets/250832fc.pdf
footprint DFN-24-1EP_4x7mm_P0.5mm_EP2.64x6.44mm
pins: 1 RDLA (in), 2 RDLB (in), 3 VDD (power), 4 GND (power), 5 IN+ (in), 6 IN- (in), 7 GND (power), 8 REF, 9 REF, 10 REF, 11 SEL0 (in), 12 SEL1 (in), 13 MCLK (in), 14 SYNC (in), 15 DRL (out), 16 GND (power), 17 SDOA (hiz), 18 SCKA (in), 19 SCKB (in), 20 SDOB (hiz), 21 BUSY (out), 22 OVDD (power), 23 GND (power), 24 GND (power), 25 EPAD (power)

## LTC2508IDKD-32
designator *  value LTC2508IDKD-32
ki_keywords: LT ADC 32bit; ki_description: 32-Bit Oversampling ADC with Configurable Digital Filter, -40°C to 85°C, DFN-24 package; ki_fp_filters: DFN*1EP*4x7mm*P0.5mm*; Footprint: Package_DFN_QFN:DFN-24-1EP_4x7mm_P0.5mm_EP2.64x6.44mm; Supplier: https://www.analog.com/media/en/technical-documentation/data-sheets/250832fc.pdf
footprint DFN-24-1EP_4x7mm_P0.5mm_EP2.64x6.44mm
pins: 1 RDLA (in), 2 RDLB (in), 3 VDD (power), 4 GND (power), 5 IN+ (in), 6 IN- (in), 7 GND (power), 8 REF, 9 REF, 10 REF, 11 SEL0 (in), 12 SEL1 (in), 13 MCLK (in), 14 SYNC (in), 15 DRL (out), 16 GND (power), 17 SDOA (hiz), 18 SCKA (in), 19 SCKB (in), 20 SDOB (hiz), 21 BUSY (out), 22 OVDD (power), 23 GND (power), 24 GND (power), 25 EPAD (power)

## LTC4151xMS
designator *  value LTC4151xMS
ki_keywords: I2C Current Monitor; ki_description: High Voltage I2C Current and Voltage Monitor, MSOP-10; ki_fp_filters: MSOP*3x3mm*P0.5mm*; Footprint: Package_SO:MSOP-10_3x3mm_P0.5mm; Supplier: https://www.analog.com/media/en/technical-documentation/data-sheets/4151ff.pdf
footprint MSOP-10_3x3mm_P0.5mm
pins: 1 SENSE+ (in), 2 VIN (power), 3 ADR1 (in), 4 ADR0 (in), 5 ADIN (in), 6 SCL (in), 7 SDA (io), 8 ~{{SHDN}} (in), 9 GND (power), 10 SENSE- (in)

## MAX1112
designator *  value MAX1112
ki_keywords: MAXIM ADC 5V 8-Bit SPI QSPI MICROWIRE; ki_description: 8-Channel Single-Ended or 4-Channel Differential 8-Bit ADC, SSOP-20; ki_fp_filters: SSOP*5.3x7.2mm*P0.65mm*; Footprint: Package_SO:SSOP-20_5.3x7.2mm_P0.65mm; Supplier: http://datasheets.maximintegrated.com/en/ds/MAX1112-MAX1113.pdf
footprint SSOP-20_5.3x7.2mm_P0.65mm
pins: 1 CH0 (in), 2 CH1 (in), 3 CH2 (in), 4 CH3 (in), 5 CH4 (in), 6 CH5 (in), 7 CH6 (in), 8 CH7 (in), 9 COM (power), 10 ~{{SHDN}} (in), 11 REFIN (power), 12 REFOUT (power), 13 AGND (power), 14 DGND (power), 15 DOUT (out), 16 SSTRB (out), 17 DIN (in), 18 ~{{CS}} (in), 19 SCLK (in), 20 VDD (power)

## MAX1113
designator *  value MAX1113
ki_keywords: MAXIM ADC 5V 8-Bit SPI QSPI MICROWIRE; ki_description: 4-Channel Single-Ended or 2-Channel Differential 8-Bit ADC, QSOP-16; ki_fp_filters: QSOP*3.9x4.9mm*P0.635mm*; Footprint: Package_SO:QSOP-16_3.9x4.9mm_P0.635mm; Supplier: http://datasheets.maximintegrated.com/en/ds/MAX1112-MAX1113.pdf
footprint QSOP-16_3.9x4.9mm_P0.635mm
pins: 1 CH0 (in), 2 CH1 (in), 3 CH2 (in), 4 CH3 (in), 5 COM (power), 6 ~{{SHDN}} (in), 7 REFIN (power), 8 REFOUT (power), 9 AGND (power), 10 DGND (power), 11 DOUT (out), 12 SSTRB (out), 13 DIN (in), 14 ~{{CS}} (in), 15 SCLK (in), 16 VDD (power)

## MAX1248
designator *  value MAX1248
ki_keywords: 10-Bit ADC Internal Reference Serial 4-Channel Maxim; ki_description: 4-Channel 10-Bit ADC with Serial Interface, +2.7V to +5.25V, Internal 2.5V Reference, Low-Power; ki_fp_filters: DIP* QSOP*; Supplier: https://datasheets.maximintegrated.com/en/ds/MAX1248-MAX1249.pdf
pins: 1 VDD (power), 2 CH0 (in), 3 CH1 (in), 4 CH2 (in), 5 CH3 (in), 6 COM (power), 7 ~{{SHDN}} (hiz), 8 VREF (power), 9 REFADJ (in), 10 AGND (power), 11 DGND (power), 12 DOUT (out), 13 SSTRB (out), 14 DIN (in), 15 ~{{CS}} (in), 16 SCLK (in)

## MAX1249
designator *  value MAX1249
ki_keywords: 10-Bit ADC Serial 4-Channel Maxim; ki_description: 4-Channel 10-Bit ADC with Serial Interface, +2.7V to +5.25V, Low-Power; ki_fp_filters: DIP* QSOP*; Supplier: https://datasheets.maximintegrated.com/en/ds/MAX1248-MAX1249.pdf
pins: 1 VDD (power), 2 CH0 (in), 3 CH1 (in), 4 CH2 (in), 5 CH3 (in), 6 COM (power), 7 ~{{SHDN}} (hiz), 8 VREF (power), 9 REFADJ (in), 10 AGND (power), 11 DGND (power), 12 DOUT (out), 13 SSTRB (out), 14 DIN (in), 15 ~{{CS}} (in), 16 SCLK (in)

## MAX1274
designator *  value MAX1274
ki_keywords: 12bit ADC 1CH diff differential; ki_description: 1.8Msps, Single-Supply, Low-Power, True-Differential, 12-Bit ADCs, bipolar input; ki_fp_filters: *QFN*4x4mm*P0.8mm*; Supplier: https://datasheets.maximintegrated.com/en/ds/MAX1274-MAX1275.pdf
pins: 1 AIN- (in), 2 REF (in), 3 RGND (power), 4 VDD (power), 5 NC (in) hidden, 6 GND (power), 7 VL (power), 8 DOUT (out), 9 CNVST (in), 10 SCLK (in), 11 NC (in) hidden, 12 AIN+ (in), 13 PAD (power)

## MAX1275
designator *  value MAX1275
ki_keywords: 12bit ADC 1CH diff differential; ki_description: 1.8Msps, Single-Supply, Low-Power, True-Differential, 12-Bit ADCs, unipolar input; ki_fp_filters: *QFN*4x4mm*P0.8mm*; Supplier: https://datasheets.maximintegrated.com/en/ds/MAX1274-MAX1275.pdf
pins: 1 AIN- (in), 2 REF (in), 3 RGND (power), 4 VDD (power), 5 NC (in) hidden, 6 GND (power), 7 VL (power), 8 DOUT (out), 9 CNVST (in), 10 SCLK (in), 11 NC (in) hidden, 12 AIN+ (in), 13 PAD (power)

## MAX11120xTI
designator *  value MAX11120xTI
ki_keywords: MAXIM ADC 3.3V 8-Bit SPI; ki_description: 4-Channel 8-Bit 1.5MHz Full-Linear Bandwidth External Reference High-Speed Low-Power ADC, QFN-28; ki_fp_filters: *QFN*1EP*5x5mm*P0.5mm*; Footprint: Package_DFN_QFN:TQFN-28-1EP_5x5mm_P0.5mm_EP3.25x3.25mm; Supplier: https://datasheets.maximintegrated.com/en/ds/MAX11120-MAX11128.pdf
footprint TQFN-28-1EP_5x5mm_P0.5mm_EP3.25x3.25mm
pins: 1 AIN3 (in), 2 GND hidden, 3 GND hidden, 4 GND hidden, 5 GND hidden, 6 GND hidden, 7 GND hidden, 8 GND hidden, 9 GND hidden, 10 GND hidden, 11 GND hidden, 12 ~{{CNVST}} (in), 13 REF- (in), 14 GND (power), 15 REF+ (in), 16 GND hidden, 17 VDD (power), 18 VDD hidden, 19 SCLK (in), 20 ~{{CS}} (in), 21 DIN (in), 22 DGND (power), 23 OVDD (power), 24 DOUT (out), 25 ~{{EOC}} (out), 26 AIN0 (in), 27 AIN1 (in), 28 AIN2 (in), 29 EP (power)

## MAX11121xTI
designator *  value MAX11121xTI
ki_keywords: MAXIM ADC 3.3V 10-Bit SPI; ki_description: 4-Channel 10-Bit 1.5MHz Full-Linear Bandwidth External Reference High-Speed Low-Power ADC, QFN-28; ki_fp_filters: *QFN*1EP*5x5mm*P0.5mm*; Footprint: Package_DFN_QFN:TQFN-28-1EP_5x5mm_P0.5mm_EP3.25x3.25mm; Supplier: https://datasheets.maximintegrated.com/en/ds/MAX11120-MAX11128.pdf
footprint TQFN-28-1EP_5x5mm_P0.5mm_EP3.25x3.25mm
pins: 1 AIN3 (in), 2 GND hidden, 3 GND hidden, 4 GND hidden, 5 GND hidden, 6 GND hidden, 7 GND hidden, 8 GND hidden, 9 GND hidden, 10 GND hidden, 11 GND hidden, 12 ~{{CNVST}} (in), 13 REF- (in), 14 GND (power), 15 REF+ (in), 16 GND hidden, 17 VDD (power), 18 VDD hidden, 19 SCLK (in), 20 ~{{CS}} (in), 21 DIN (in), 22 DGND (power), 23 OVDD (power), 24 DOUT (out), 25 ~{{EOC}} (out), 26 AIN0 (in), 27 AIN1 (in), 28 AIN2 (in), 29 EP (power)

## MAX11122xTI
designator *  value MAX11122xTI
ki_keywords: MAXIM ADC 3.3V 12-Bit SPI; ki_description: 4-Channel 12-Bit 1.5MHz Full-Linear Bandwidth External Reference High-Speed Low-Power ADC, QFN-28; ki_fp_filters: *QFN*1EP*5x5mm*P0.5mm*; Footprint: Package_DFN_QFN:TQFN-28-1EP_5x5mm_P0.5mm_EP3.25x3.25mm; Supplier: https://datasheets.maximintegrated.com/en/ds/MAX11120-MAX11128.pdf
footprint TQFN-28-1EP_5x5mm_P0.5mm_EP3.25x3.25mm
pins: 1 AIN3 (in), 2 GND hidden, 3 GND hidden, 4 GND hidden, 5 GND hidden, 6 GND hidden, 7 GND hidden, 8 GND hidden, 9 GND hidden, 10 GND hidden, 11 GND hidden, 12 ~{{CNVST}} (in), 13 REF- (in), 14 GND (power), 15 REF+ (in), 16 GND hidden, 17 VDD (power), 18 VDD hidden, 19 SCLK (in), 20 ~{{CS}} (in), 21 DIN (in), 22 DGND (power), 23 OVDD (power), 24 DOUT (out), 25 ~{{EOC}} (out), 26 AIN0 (in), 27 AIN1 (in), 28 AIN2 (in), 29 EP (power)

## MAX11123xTI
designator *  value MAX11123xTI
ki_keywords: MAXIM ADC 3.3V 8-Bit SPI; ki_description: 8-Channel 8-Bit 1.5MHz Full-Linear Bandwidth External Reference High-Speed Low-Power ADC, QFN-28; ki_fp_filters: *QFN*1EP*5x5mm*P0.5mm*; Footprint: Package_DFN_QFN:TQFN-28-1EP_5x5mm_P0.5mm_EP3.25x3.25mm; Supplier: https://datasheets.maximintegrated.com/en/ds/MAX11120-MAX11128.pdf
footprint TQFN-28-1EP_5x5mm_P0.5mm_EP3.25x3.25mm
pins: 1 AIN3 (in), 2 AIN4 (in), 3 AIN5 (in), 4 AIN6 (in), 5 AIN7 (in), 6 GND hidden, 7 GND hidden, 8 GND hidden, 9 GND hidden, 10 GND hidden, 11 GND hidden, 12 ~{{CNVST}} (in), 13 REF- (in), 14 GND (power), 15 REF+ (in), 16 GND hidden, 17 VDD (power), 18 VDD hidden, 19 SCLK (in), 20 ~{{CS}} (in), 21 DIN (in), 22 DGND (power), 23 OVDD (power), 24 DOUT (out), 25 ~{{EOC}} (out), 26 AIN0 (in), 27 AIN1 (in), 28 AIN2 (in), 29 EP (power)

## MAX11124xTI
designator *  value MAX11124xTI
ki_keywords: MAXIM ADC 3.3V 10-Bit SPI; ki_description: 8-Channel 10-Bit 1.5MHz Full-Linear Bandwidth External Reference High-Speed Low-Power ADC, QFN-28; ki_fp_filters: *QFN*1EP*5x5mm*P0.5mm*; Footprint: Package_DFN_QFN:TQFN-28-1EP_5x5mm_P0.5mm_EP3.25x3.25mm; Supplier: https://datasheets.maximintegrated.com/en/ds/MAX11120-MAX11128.pdf
footprint TQFN-28-1EP_5x5mm_P0.5mm_EP3.25x3.25mm
pins: 1 AIN3 (in), 2 AIN4 (in), 3 AIN5 (in), 4 AIN6 (in), 5 AIN7 (in), 6 GND hidden, 7 GND hidden, 8 GND hidden, 9 GND hidden, 10 GND hidden, 11 GND hidden, 12 ~{{CNVST}} (in), 13 REF- (in), 14 GND (power), 15 REF+ (in), 16 GND hidden, 17 VDD (power), 18 VDD hidden, 19 SCLK (in), 20 ~{{CS}} (in), 21 DIN (in), 22 DGND (power), 23 OVDD (power), 24 DOUT (out), 25 ~{{EOC}} (out), 26 AIN0 (in), 27 AIN1 (in), 28 AIN2 (in), 29 EP (power)

## MAX11125xTI
designator *  value MAX11125xTI
ki_keywords: MAXIM ADC 3.3V 12-Bit SPI; ki_description: 8-Channel 12-Bit 1.5MHz Full-Linear Bandwidth External Reference High-Speed Low-Power ADC, QFN-28; ki_fp_filters: *QFN*1EP*5x5mm*P0.5mm*; Footprint: Package_DFN_QFN:TQFN-28-1EP_5x5mm_P0.5mm_EP3.25x3.25mm; Supplier: https://datasheets.maximintegrated.com/en/ds/MAX11120-MAX11128.pdf
footprint TQFN-28-1EP_5x5mm_P0.5mm_EP3.25x3.25mm
pins: 1 AIN3 (in), 2 AIN4 (in), 3 AIN5 (in), 4 AIN6 (in), 5 AIN7 (in), 6 GND hidden, 7 GND hidden, 8 GND hidden, 9 GND hidden, 10 GND hidden, 11 GND hidden, 12 ~{{CNVST}} (in), 13 REF- (in), 14 GND (power), 15 REF+ (in), 16 GND hidden, 17 VDD (power), 18 VDD hidden, 19 SCLK (in), 20 ~{{CS}} (in), 21 DIN (in), 22 DGND (power), 23 OVDD (power), 24 DOUT (out), 25 ~{{EOC}} (out), 26 AIN0 (in), 27 AIN1 (in), 28 AIN2 (in), 29 EP (power)

## MAX11126xTI
designator *  value MAX11126xTI
ki_keywords: MAXIM ADC 3.3V 8-Bit SPI; ki_description: 16-Channel 8-Bit 1.5MHz Full-Linear Bandwidth External Reference High-Speed Low-Power ADC, QFN-28; ki_fp_filters: *QFN*1EP*5x5mm*P0.5mm*; Footprint: Package_DFN_QFN:TQFN-28-1EP_5x5mm_P0.5mm_EP3.25x3.25mm; Supplier: https://datasheets.maximintegrated.com/en/ds/MAX11120-MAX11128.pdf
footprint TQFN-28-1EP_5x5mm_P0.5mm_EP3.25x3.25mm
pins: 1 AIN3 (in), 2 AIN4 (in), 3 AIN5 (in), 4 AIN6 (in), 5 AIN7 (in), 6 AIN8 (in), 7 AIN9 (in), 8 AIN10 (in), 9 AIN11 (in), 10 AIN12 (in), 11 AIN13 (in), 12 ~{{CNVST}/AIN14} (in), 13 REF-/AIN15 (in), 14 GND (power), 15 REF+ (in), 16 GND hidden, 17 VDD (power), 18 VDD hidden, 19 SCLK (in), 20 ~{{CS}} (in), 21 DIN (in), 22 DGND (power), 23 OVDD (power), 24 DOUT (out), 25 ~{{EOC}} (out), 26 AIN0 (in), 27 AIN1 (in), 28 AIN2 (in), 29 EP (power)

## MAX11127xTI
designator *  value MAX11127xTI
ki_keywords: MAXIM ADC 3.3V 10-Bit SPI; ki_description: 16-Channel 10-Bit 1.5MHz Full-Linear Bandwidth External Reference High-Speed Low-Power ADC, QFN-28; ki_fp_filters: *QFN*1EP*5x5mm*P0.5mm*; Footprint: Package_DFN_QFN:TQFN-28-1EP_5x5mm_P0.5mm_EP3.25x3.25mm; Supplier: https://datasheets.maximintegrated.com/en/ds/MAX11120-MAX11128.pdf
footprint TQFN-28-1EP_5x5mm_P0.5mm_EP3.25x3.25mm
pins: 1 AIN3 (in), 2 AIN4 (in), 3 AIN5 (in), 4 AIN6 (in), 5 AIN7 (in), 6 AIN8 (in), 7 AIN9 (in), 8 AIN10 (in), 9 AIN11 (in), 10 AIN12 (in), 11 AIN13 (in), 12 ~{{CNVST}/AIN14} (in), 13 REF-/AIN15 (in), 14 GND (power), 15 REF+ (in), 16 GND hidden, 17 VDD (power), 18 VDD hidden, 19 SCLK (in), 20 ~{{CS}} (in), 21 DIN (in), 22 DGND (power), 23 OVDD (power), 24 DOUT (out), 25 ~{{EOC}} (out), 26 AIN0 (in), 27 AIN1 (in), 28 AIN2 (in), 29 EP (power)

## MAX11128xTI
designator *  value MAX11128xTI
ki_keywords: MAXIM ADC 3.3V 12-Bit SPI; ki_description: 16-Channel 12-Bit 1.5MHz Full-Linear Bandwidth External Reference High-Speed Low-Power ADC, QFN-28; ki_fp_filters: *QFN*1EP*5x5mm*P0.5mm*; Footprint: Package_DFN_QFN:TQFN-28-1EP_5x5mm_P0.5mm_EP3.25x3.25mm; Supplier: https://datasheets.maximintegrated.com/en/ds/MAX11120-MAX11128.pdf
footprint TQFN-28-1EP_5x5mm_P0.5mm_EP3.25x3.25mm
pins: 1 AIN3 (in), 2 AIN4 (in), 3 AIN5 (in), 4 AIN6 (in), 5 AIN7 (in), 6 AIN8 (in), 7 AIN9 (in), 8 AIN10 (in), 9 AIN11 (in), 10 AIN12 (in), 11 AIN13 (in), 12 ~{{CNVST}/AIN14} (in), 13 REF-/AIN15 (in), 14 GND (power), 15 REF+ (in), 16 GND hidden, 17 VDD (power), 18 VDD hidden, 19 SCLK (in), 20 ~{{CS}} (in), 21 DIN (in), 22 DGND (power), 23 OVDD (power), 24 DOUT (out), 25 ~{{EOC}} (out), 26 AIN0 (in), 27 AIN1 (in), 28 AIN2 (in), 29 EP (power)

## MAX11612
designator *  value MAX11612
ki_keywords: adc i2c 4ch; ki_description: 4-channel single-ended or 2-channel, differential, 12-bit ADC, I2C, 4.096V internal reference, 8-MSOP package; ki_fp_filters: MSOP*3x3mm*P0.65mm*; Footprint: Package_SO:MSOP-8_3x3mm_P0.65mm; Supplier: https://datasheets.maximintegrated.com/en/ds/MAX11612-MAX11617.pdf
footprint MSOP-8_3x3mm_P0.65mm
pins: 1 AIN0 (in), 2 AIN1 (in), 3 AIN2 (in), 4 AIN3/REF (in), 5 SCL (in), 6 SDA (io), 7 GND (power), 8 Vdd (power)

## MAX11613
designator *  value MAX11613
ki_keywords: adc i2c 4ch; ki_description: 4-channel single-ended or 2-channel, differential, 12-bit ADC, I2C, 2.048V internal reference, 8-MSOP package; ki_fp_filters: MSOP*3x3mm*P0.65mm*; Footprint: Package_SO:MSOP-8_3x3mm_P0.65mm; Supplier: https://datasheets.maximintegrated.com/en/ds/MAX11612-MAX11617.pdf
footprint MSOP-8_3x3mm_P0.65mm
pins: 1 AIN0 (in), 2 AIN1 (in), 3 AIN2 (in), 4 AIN3/REF (in), 5 SCL (in), 6 SDA (io), 7 GND (power), 8 Vdd (power)

## MAX11614
designator *  value MAX11614
ki_keywords: adc i2c 8ch; ki_description: 8-channel single-ended or 4-channel, differential, 12-bit ADC, I2C, 4.096V internal reference, 16-QSOP package; ki_fp_filters: QSOP*3.9x4.9mm*P0.635mm*; Footprint: Package_SO:QSOP-16_3.9x4.9mm_P0.635mm; Supplier: https://datasheets.maximintegrated.com/en/ds/MAX11612-MAX11617.pdf
footprint QSOP-16_3.9x4.9mm_P0.635mm
pins: 1 REF (in), 2 NC (in) hidden, 3 NC (in) hidden, 4 NC (in) hidden, 5 AIN0 (in), 6 AIN1 (in), 7 AIN2 (in), 8 AIN3 (in), 9 AIN4 (in), 10 AIN5 (in), 11 AIN6 (in), 12 AIN7 (in), 13 SCL (in), 14 SDA (io), 15 GND (power), 16 Vdd (power)

## MAX11615
designator *  value MAX11615
ki_keywords: adc i2c 8ch; ki_description: 8-channel single-ended or 4-channel, differential, 12-bit ADC, I2C, 2.048V internal reference, 16-QSOP package; ki_fp_filters: QSOP*3.9x4.9mm*P0.635mm*; Footprint: Package_SO:QSOP-16_3.9x4.9mm_P0.635mm; Supplier: https://datasheets.maximintegrated.com/en/ds/MAX11612-MAX11617.pdf
footprint QSOP-16_3.9x4.9mm_P0.635mm
pins: 1 REF (in), 2 NC (in) hidden, 3 NC (in) hidden, 4 NC (in) hidden, 5 AIN0 (in), 6 AIN1 (in), 7 AIN2 (in), 8 AIN3 (in), 9 AIN4 (in), 10 AIN5 (in), 11 AIN6 (in), 12 AIN7 (in), 13 SCL (in), 14 SDA (io), 15 GND (power), 16 Vdd (power)

## MAX11616
designator *  value MAX11616
ki_keywords: adc i2c 12ch; ki_description: 12-channel single-ended or 6-channel, differential, 12-bit ADC, I2C, 4.096V internal reference, 16-QSOP package; ki_fp_filters: QSOP*3.9x4.9mm*P0.635mm*; Footprint: Package_SO:QSOP-16_3.9x4.9mm_P0.635mm; Supplier: https://datasheets.maximintegrated.com/en/ds/MAX11612-MAX11617.pdf
footprint QSOP-16_3.9x4.9mm_P0.635mm
pins: 1 AIN11 (in), 2 AIN10 (in), 3 AIN9 (in), 4 AIN8 (in), 5 AIN0 (in), 6 AIN1 (in), 7 AIN2 (in), 8 AIN3 (in), 9 AIN4 (in), 10 AIN5 (in), 11 AIN6 (in), 12 AIN7 (in), 13 SCL (in), 14 SDA (io), 15 GND (power), 16 Vdd (power)

## MAX11617
designator *  value MAX11617
ki_keywords: adc i2c 12ch; ki_description: 12-channel single-ended or 6-channel, differential, 12-bit ADC, I2C, 2.048V internal reference, 16-QSOP package; ki_fp_filters: QSOP*3.9x4.9mm*P0.635mm*; Footprint: Package_SO:QSOP-16_3.9x4.9mm_P0.635mm; Supplier: https://datasheets.maximintegrated.com/en/ds/MAX11612-MAX11617.pdf
footprint QSOP-16_3.9x4.9mm_P0.635mm
pins: 1 AIN11 (in), 2 AIN10 (in), 3 AIN9 (in), 4 AIN8 (in), 5 AIN0 (in), 6 AIN1 (in), 7 AIN2 (in), 8 AIN3 (in), 9 AIN4 (in), 10 AIN5 (in), 11 AIN6 (in), 12 AIN7 (in), 13 SCL (in), 14 SDA (io), 15 GND (power), 16 Vdd (power)

## MCP3002
designator *  value MCP3002
ki_keywords: Dual Channel 10-Bit ADC SPI 2CH; ki_description: Dual Channel 10-Bit A/D Converter with SPI Serial Interface; ki_fp_filters: DIP*W7.62mm** SOIC*3.9x4.9mm*P1.27mm* TSSOP*3x3mm*P0.65mm* MSOP*3x3mm*P0.65mm*; Supplier: http://ww1.microchip.com/downloads/en/DeviceDoc/21294E.pdf
pins: 1 ~{{CS}/SHDN} (in), 2 CH0, 3 CH1, 4 VSS (power), 5 DIN (in), 6 DOUT (out), 7 CLK (in), 8 VDD/VREF (power)

## MCP3004
designator *  value MCP3004
ki_keywords: 10-Bit ADC SPI 4CH; ki_description: 4-Channel 10-Bit A/D Converters with SPI Interface; ki_fp_filters: DIP*W7.62mm* SOIC*3.9x8.7mm*P1.27mm* TSSOP*4.4x5mm*P0.65mm*; Supplier: http://ww1.microchip.com/downloads/en/DeviceDoc/21295C.pdf
pins: 1 CH0 (in), 2 CH1 (in), 3 CH2 (in), 4 CH3 (in), 5 NC (in) hidden, 6 NC (in) hidden, 7 DGND (power), 8 ~{{CS}/SHDN} (in), 9 Din (in), 10 Dout (out), 11 CLK (in), 12 AGND (power), 13 Vref (power), 14 Vdd (power)
text: MUX; ADC; CNTRL

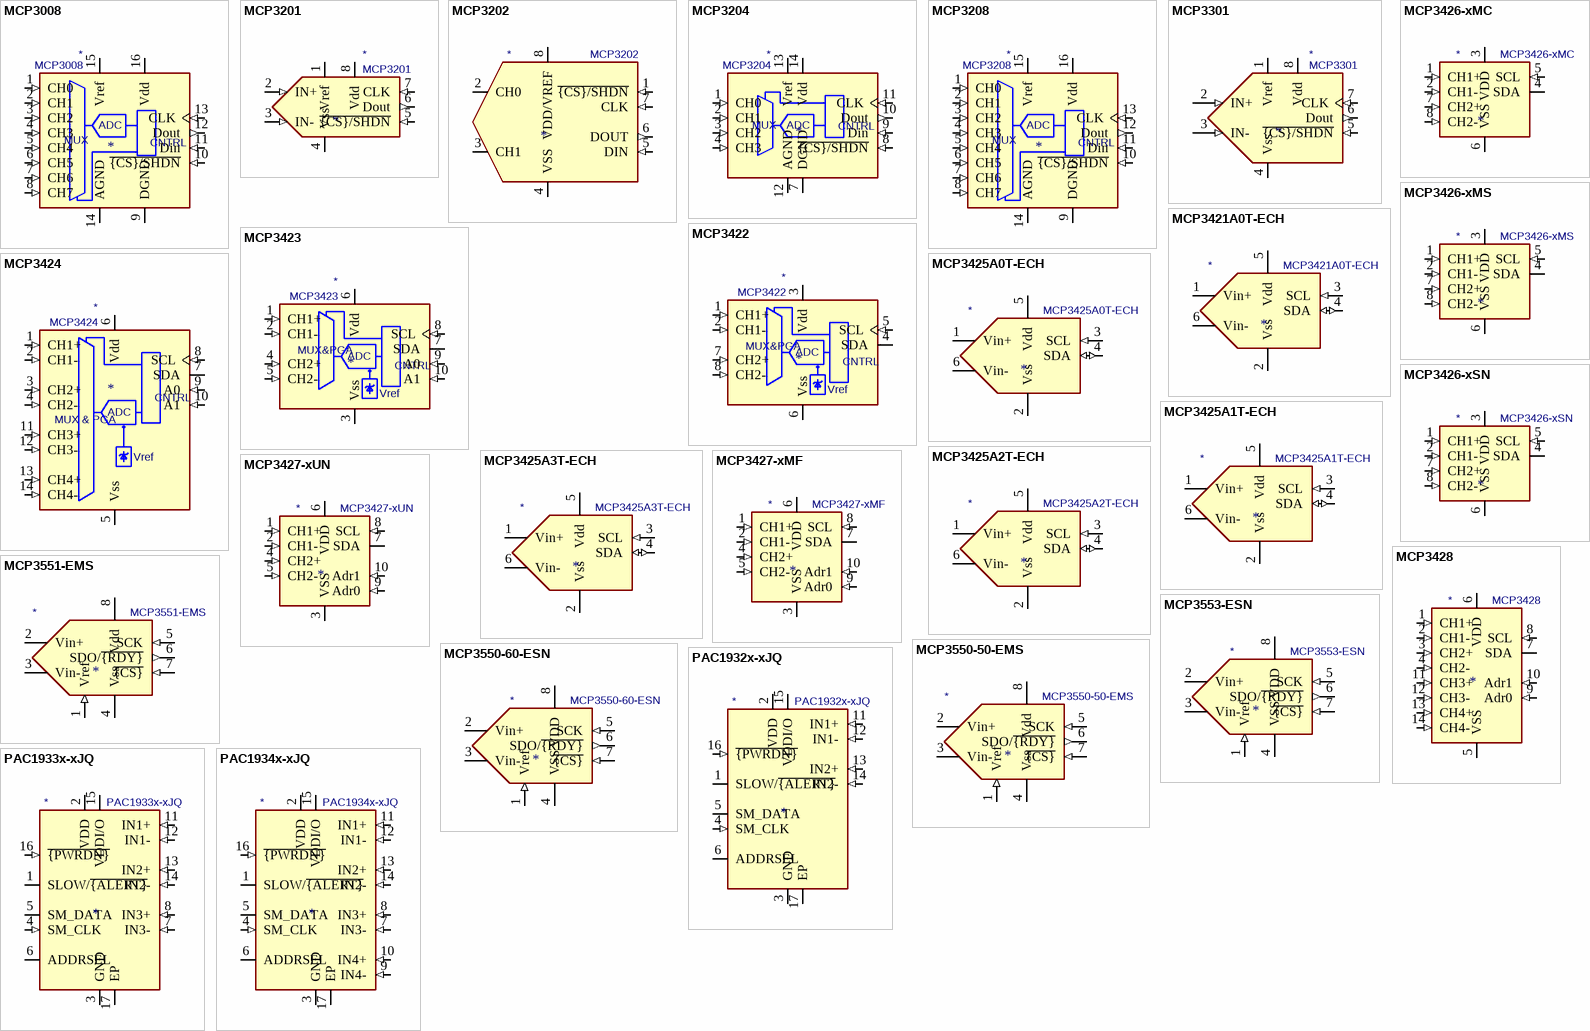
[diagram p5: symbols MCP3008 to PAC1934x-xJQ]

## MCP3008
designator *  value MCP3008
ki_keywords: 12bit ADC Reference Single Supply SPI 8CH; ki_description: A/D Converter, 10-Bit, 8-Channel, SPI Interface , 2.7V-5.5V; ki_fp_filters: DIP*W7.62mm* SOIC*3.9x9.9mm*P1.27mm*; Supplier: http://ww1.microchip.com/downloads/en/DeviceDoc/21295d.pdf
pins: 1 CH0 (in), 2 CH1 (in), 3 CH2 (in), 4 CH3 (in), 5 CH4 (in), 6 CH5 (in), 7 CH6 (in), 8 CH7 (in), 9 DGND (power), 10 ~{{CS}/SHDN} (in), 11 Din (in), 12 Dout (out), 13 CLK (in), 14 AGND (power), 15 Vref (power), 16 Vdd (power)
text: ADC; MUX; CNTRL

## MCP3201
designator *  value MCP3201
ki_keywords: 12-Bit Differential ADC SPI 1ch; ki_description: 2.7V 12-Bit A/D Converter with SPI™ Serial Interface, PDIP-8/SOIC-8/MSOP-8/TSSOP-8; ki_fp_filters: SOIC*3.9x4.9mm*P1.27mm* DIP*W7.62mm* TSSOP*4.4x3mm*P0.65mm* MSOP*3x3mm*P0.65mm*; Supplier: http://ww1.microchip.com/downloads/en/DeviceDoc/21290D.pdf
pins: 1 Vref (power), 2 IN+ (in), 3 IN- (in), 4 Vss (power), 5 ~{{CS}/SHDN} (in), 6 Dout (out), 7 CLK (in), 8 Vdd (power)

## MCP3202
designator *  value MCP3202
ki_keywords: 12bit ADC Reference Single Supply SPI 2ch; ki_description: A/D Converter, 12-Bit, 2-Channel, SPI Interface, 2.7V-5.5V; ki_fp_filters: DIP*W7.62mm** SOIC*3.9x4.9mm*P1.27mm* TSSOP*3x3mm*P0.65mm* MSOP*3x3mm*P0.65mm*; Supplier: http://ww1.microchip.com/downloads/en/DeviceDoc/21034D.pdf
pins: 1 ~{{CS}/SHDN} (in), 2 CH0, 3 CH1, 4 VSS (power), 5 DIN (in), 6 DOUT (out), 7 CLK (in), 8 VDD/VREF (power)

## MCP3204
designator *  value MCP3204
ki_keywords: 12bit ADC Reference Single Supply SPI 4ch; ki_description: A/D Converter, 12-Bit, 4-Channel, SPI Interface, 2.7V-5.5V; ki_fp_filters: SOIC*3.9x8.7mm*P1.27mm* DIP*W7.62mm* TSSOP*4.4x5mm*P0.65mm*; Supplier: http://ww1.microchip.com/downloads/en/DeviceDoc/21298c.pdf
pins: 1 CH0 (in), 2 CH1 (in), 3 CH2 (in), 4 CH3 (in), 5 NC (in) hidden, 6 NC (in) hidden, 7 DGND (power), 8 ~{{CS}/SHDN} (in), 9 Din (in), 10 Dout (out), 11 CLK (in), 12 AGND (power), 13 Vref (power), 14 Vdd (power)
text: MUX; ADC; CNTRL

## MCP3208
designator *  value MCP3208
ki_keywords: 12bit ADC Reference Single Supply SPI 8ch; ki_description: A/D Converter, 12-Bit, 8-Channel, SPI Interface , 2.7V-5.5V; ki_fp_filters: DIP*W7.62mm* SOIC*3.9x9.9mm*P1.27mm*; Supplier: http://ww1.microchip.com/downloads/en/DeviceDoc/21298c.pdf
pins: 1 CH0 (in), 2 CH1 (in), 3 CH2 (in), 4 CH3 (in), 5 CH4 (in), 6 CH5 (in), 7 CH6 (in), 8 CH7 (in), 9 DGND (power), 10 ~{{CS}/SHDN} (in), 11 Din (in), 12 Dout (out), 13 CLK (in), 14 AGND (power), 15 Vref (power), 16 Vdd (power)
text: ADC; MUX; CNTRL

## MCP3301
designator *  value MCP3301
ki_keywords: 13-Bit Differential ADC SPI  1ch; ki_description: 13-Bit Differential Input, Low Power A/D Converter with SPI Interface; ki_fp_filters: DIP*W7.62mm* SOIC*3.9x4.9mm*P1.27mm*; Supplier: http://ww1.microchip.com/downloads/en/DeviceDoc/21700D.pdf
pins: 1 Vref (power), 2 IN+ (in), 3 IN- (in), 4 Vss (power), 5 ~{{CS}/SHDN} (in), 6 Dout (out), 7 CLK (in), 8 Vdd (power)

## MCP3421A0T-ECH
designator *  value MCP3421A0T-ECH
ki_keywords: Sigma-Delta ADC Converter 18bit I2C 1ch; ki_description: Single Delta-Sigma 18bit Analog to Digital Converter, I2C Interface, SOT-23-6; ki_fp_filters: SOT?23* SOT?23*; Supplier: http://ww1.microchip.com/downloads/en/DeviceDoc/22003e.pdf
pins: 1 Vin+, 2 Vss (power), 3 SCL (in), 4 SDA (io), 5 Vdd (power), 6 Vin-

## MCP3422
designator *  value MCP3422
ki_keywords: 18-Bit ADC I2C IIC I²C Delta-Sigma-ADC Delta-Sigma-ADC Reference 2ch; ki_description: 2-Channel, 18-Bit, Delta-Sigma AD-Converter, I²C Interface, Reference; ki_fp_filters: MSOP*3x3mm*P0.65mm* SOIC*3.9x4.9mm*P1.27mm*; Supplier: http://ww1.microchip.com/downloads/en/DeviceDoc/22088c.pdf
pins: 1 CH1+ (in), 2 CH1- (in), 3 Vdd (power), 4 SDA (io), 5 SCL (in), 6 Vss (power), 7 CH2+ (in), 8 CH2- (in)
text: MUX&PGA; ADC; CNTRL; Vref